# Altium schematic symbol library sun_library2.SchLib: 548 symbols (part 3 of 5)
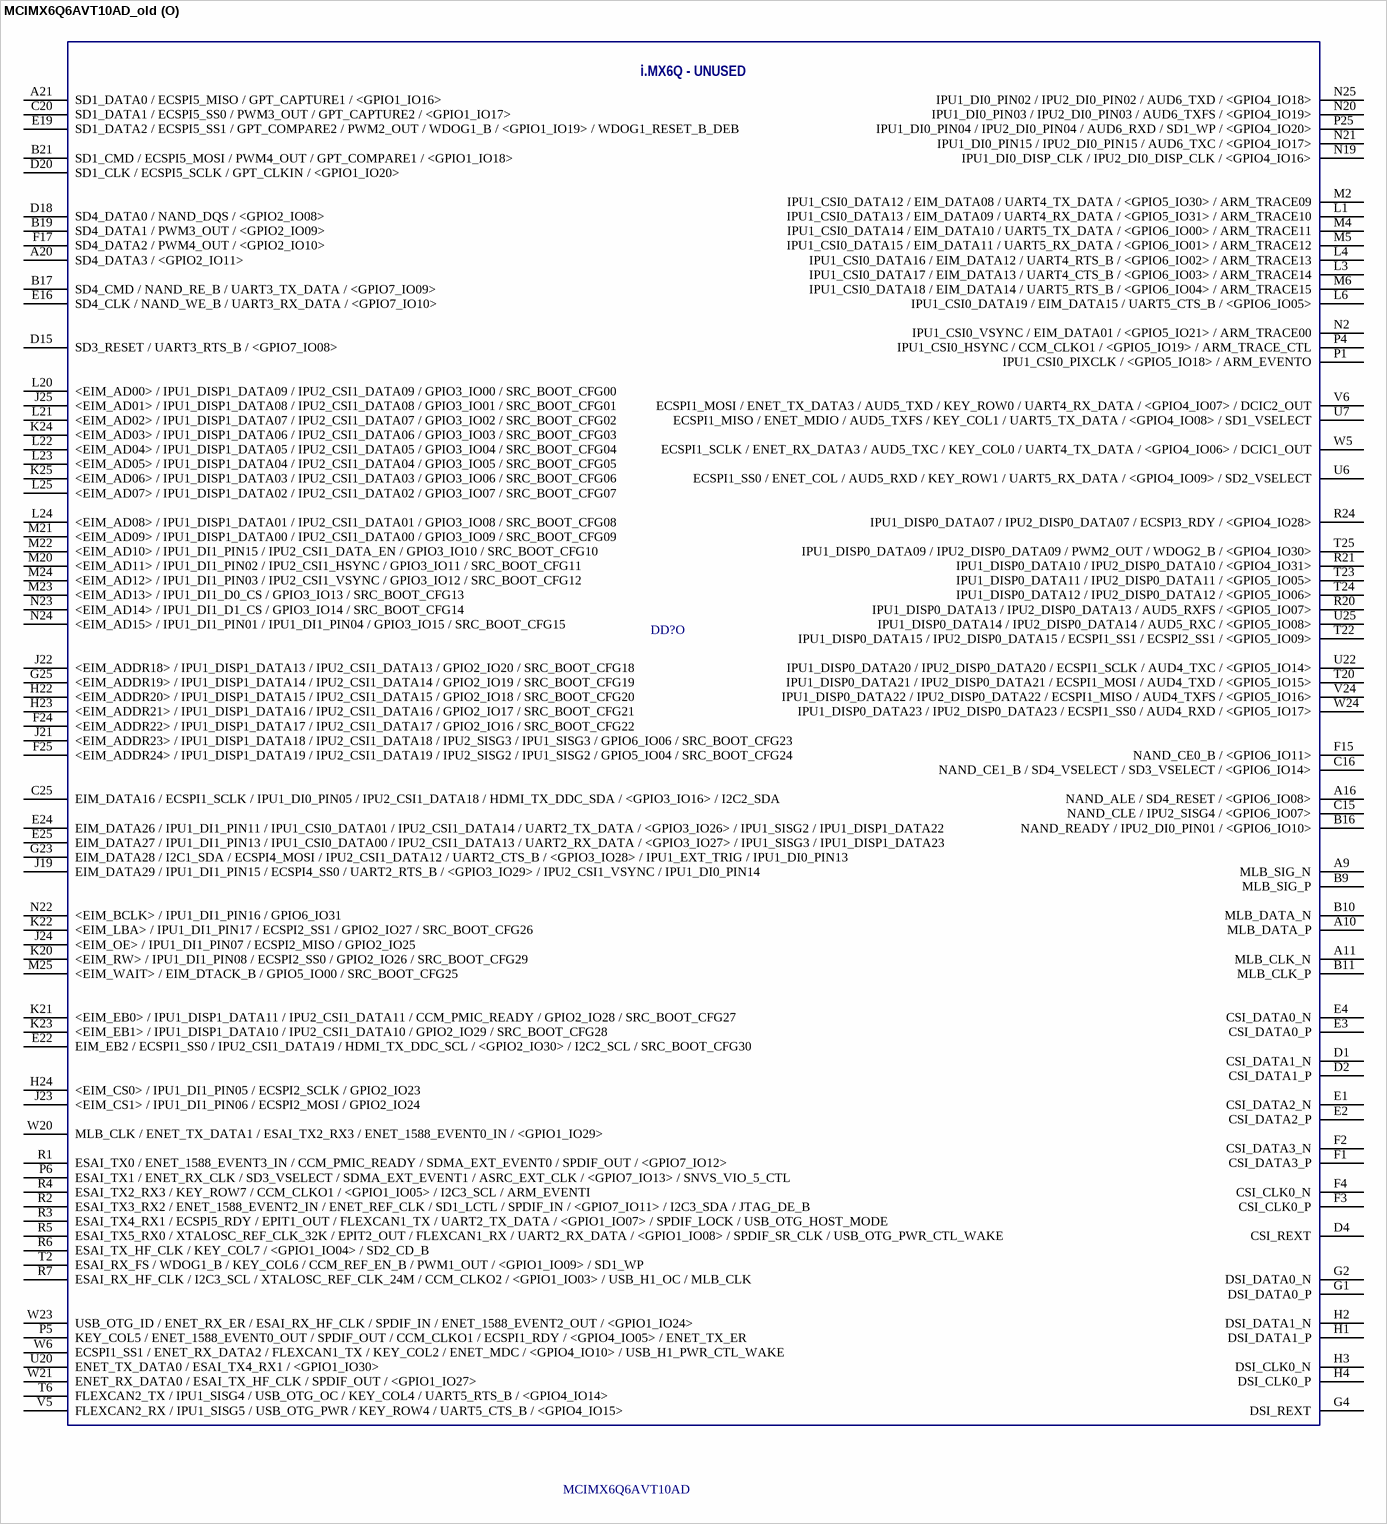
[diagram p47: symbol MCIMX6Q6AVT10AD_old]

## MCIMX6Q6AVT10AD_old
designator DD?, comment MCIMX6Q6AVT10AD
IC MCU 32BIT ARM QUAD 624FCBGA; Value: MCIMX6Q6AVT10AD
part A pins: A7 XTALOSC_XTALI, B7 XTALOSC_XTALO, C2 JTAG_TRSTB, C3 JTAG_TMS, C5 XTALOSC_CLK2_N, C9 XTALOSC_RTC_XTALO, C11 ~{SRC_POR}, C12 SRC_BOOT_MODE0, D5 XTALOSC_CLK2_P, D9 XTALOSC_RTC_XTALI, D11 SNVS_PMIC_ON_REQ, D12 SRC_ONOFF, E11 SNVS_TAMPER, E12 TCU_TEST_MODE, F11 CCM_PMIC_STBY_REQ, F12 SRC_BOOT_MODE1, G5 JTAG_TDI, G6 JTAG_TDO, G24 <EIM_ADDR17> / IPU1_DISP1_DATA12 / IPU2_CSI1_DATA12 / GPIO2_IO21 / SRC_BOOT_CFG17, H5 JTAG_TCK, H6 JTAG_MOD, H19 <EIM_ADDR25> / ECSPI4_SS1 / ECSPI2_RDY / IPU1_DI1_PIN12 / IPU1_DI0_D1_CS / GPIO5_IO02 / HDMI_TX_CEC_LINE, H25 <EIM_ADDR16> / IPU1_DI1_DISP_CLK / IPU2_CSI1_PIXCLK / GPIO2_IO22 / SRC_BOOT_CFG16, R22 IPU1_DISP0_DATA08 / IPU2_DISP0_DATA08 / PWM1_OUT / WDOG1_B / <GPIO4_IO29>, T1 ESAI_TX_FS / KEY_ROW6 / <GPIO1_IO02> / SD2_WP / MLB_DATA, U21 ENET_RX_EN / ESAI_TX_CLK / SPDIF_EXT_CLK / <GPIO1_IO25>
part B pins: A4 GND_3, A5 FA_ANA, A8 GND_4, A13 GND_1, A25 GND_2, AA7 GND_10, AA10 GND_5, AA13 GND_6, AA16 GND_7, AA19 GND_8, AA22 GND_9, AB3 GND_12, AB24 GND_11, AD4 GND_18, AD7 GND_19, AD10 GND_13, AD13 GND_14, AD16 GND_15, AD19 GND_16, AD22 GND_17, AE1 GND_20, AE25 GND_21, B4 GND_22, B5 VDD_FA, C1 GND_23, C4 GND_25, C6 GND_26, C8 GPANAIO, C10 GND_24, D3 GND_27, D6 GND_28, D8 GND_29, E5 GND_30, E6 GND_31, E7 GND_32, E8 NVCC_PLL_OUT, F5 GND_33, F6 GND_34, F7 GND_35, F8 GND_36, G3 GND_39, G9 VDD_SNVS_CAP, G10 GND_37, G11 VDD_SNVS_IN, G14 NVCC_SD3, G15 NVCC_NANDF, G16 NVCC_SD1, G17 NVCC_SD2, G18 NVCC_RGMII, G19 GND_38, H8 GND_43, H9 VDDHIGH_IN_1, H10 VDDHIGH_CAP_1, H11 VDDARM23_CAP_1, H12 GND_40, H13 VDDARM_CAP_1, H14 VDDARM_IN_1, H15 GND_41, H16 VDDSOC_IN_1, H17 VDDPU_CAP_1, H18 GND_42, J2 GND_47, J7 NVCC_JTAG, J8 GND_48, J9 VDDHIGH_IN_2, J10 VDDHIGH_CAP_2, J11 VDDARM23_CAP_2, J12 GND_44, J13 VDDARM_CAP_2, J14 VDDARM_IN_2, J15 GND_45, J16 VDDSOC_IN_2, J17 VDDPU_CAP_2, J18 GND_46, K7 NVCC_MIPI, K8 GND_53, K9 VDDARM23_IN_1, K10 GND_49, K11 VDDARM23_CAP_3, K12 GND_50, K13 VDDARM_CAP_3, K14 VDDARM_IN_3, K15 GND_51, K16 VDDSOC_IN_3, K17 VDDPU_CAP_3, K18 GND_52, K19 NVCC_EIM0, L2 GND_58, L5 GND_59, L8 GND_60, L9 VDDARM23_IN_2, L10 GND_54, L11 VDDARM23_CAP_4, L12 GND_55, L13 VDDARM_CAP_4, L14 VDDARM_IN_4, L15 GND_56, L16 VDDSOC_IN_4, L17 VDDPU_CAP_4, L18 GND_57, L19 NVCC_EIM1, M8 GND_65, M9 VDDARM23_IN_3, M10 GND_61, M11 VDDARM23_CAP_5, M12 GND_62, M13 VDDARM_CAP_5, M14 VDDARM_IN_5, M15 GND_63, M16 VDDSOC_IN_5, M17 VDDPU_CAP_5, M18 GND_64, M19 NVCC_EIM2, N7 NVCC_CSI, N8 GND_69, N9 VDDARM23_IN_4, N10 GND_66, N11 VDDARM23_CAP_6, N12 VDD_CACHE_CAP, N13 VDDARM_CAP_6, N14 VDDARM_IN_6, N15 GND_67, N16 VDDSOC_IN_6, N17 VDDPU_CAP_6, N18 GND_68, P7 NVCC_GPIO, P8 GND_74, P9 VDDARM23_IN_5, P10 GND_70, P11 VDDARM23_CAP_7, P12 GND_71, P13 VDDARM_CAP_7, P14 VDDARM_IN_7, P15 GND_72, P16 VDDSOC_IN_7, P17 VDDPU_CAP_7, P18 GND_73, P19 NVCC_LCD, R8 GND_78, R9 VDDARM23_IN_6, R10 VDDSOC_CAP_1, R11 VDDARM23_CAP_8, R12 GND_75, R13 VDDARM_CAP_8, R14 VDDARM_IN_8, R15 GND_76, R16 VDDSOC_IN_8, R17 GND_77, R19 NVCC_ENET, T8 GND_84, T9 VDDARM23_IN_7, T10 VDDSOC_CAP_2, T11 GND_79, T12 GND_80, T13 VDDSOC_CAP_3, T14 VDDSOC_CAP_4, T15 GND_81, T16 VDDSOC_IN_9, T17 GND_82, T19 GND_83, U8 GND_89, U9 VDDARM23_IN_8, U10 VDDSOC_CAP_5, U11 GND_85, U12 GND_86, U13 VDDSOC_CAP_6, U14 VDDSOC_CAP_7, U15 GND_87, U16 VDDSOC_IN_10, U17 GND_88, U19 GND_90, V8 GND_91, V19 GND_92, W3 GND_93, W7 GND_94, W8 GND_95, W9 GND_96, W10 GND_97, W11 GND_98, W12 GND_99, W13 GND_100, W15 GND_101, W16 GND_102, W17 GND_103, W18 GND_104, W19 GND_105, Y5 GND_106, Y24 GND_107
part C pins: AA5 DRAM_D3, AA6 DRAM_D10, AA8 DRAM_D17, AA9 DRAM_D23, AA11 DRAM_SDCKE1, AA12 DRAM_A14, AA14 DRAM_A2, AA15 DRAM_A10, AA17 DRAM_D32, AA18 DRAM_D33, AA20 DRAM_D45, AA21 DRAM_D57, AA23 DRAM_D61, AA24 ~{DRAM_SDQS7}, AA25 DRAM_SDQS7, AB4 DRAM_D6, AB5 DRAM_D12, AB6 DRAM_D14, AB7 DRAM_D16, AB8 DRAM_DQM2, AB9 DRAM_D18, AB10 ~{DRAM_SDQS3}, AB11 DRAM_D27, AB12 DRAM_SDBA2, AB13 DRAM_A8, AB14 DRAM_A1, AB15 DRAM_RAS, AB16 DRAM_SDWE, AB17 DRAM_SDODT1, AB18 DRAM_DQM4, AB19 DRAM_D38, AB20 DRAM_D41, AB21 DRAM_D42, AB22 DRAM_D52, AB23 DRAM_D60, AB25 DRAM_D56, AC1 DRAM_D4, AC2 DRAM_VREF, AC3 DRAM_DQM0, AC4 DRAM_D2, AC5 DRAM_D13, AC6 DRAM_DQM1, AC7 DRAM_D15, AC8 DRAM_D22, AC9 DRAM_D28, AC10 DRAM_SDQS3, AC11 DRAM_D31, AC12 DRAM_A11, AC13 DRAM_A6, AC14 DRAM_A0, AC15 DRAM_SDBA0, AC16 DRAM_SDODT0, AC17 DRAM_A13, AC18 DRAM_D34, AC19 DRAM_D39, AC20 DRAM_DQM5, AC21 DRAM_D47, AC22 DRAM_D48, AC23 DRAM_D53, AC24 DRAM_D51, AC25 DRAM_D55, AD1 DRAM_D5, AD2 DRAM_D0, AD3 ~{DRAM_SDQS0}, AD5 DRAM_D8, AD6 DRAM_SDQS1, AD8 DRAM_SDQS2, AD9 DRAM_D29, AD11 DRAM_D30, AD12 DRAM_A12, AD14 DRAM_SDCLK_1, AD15 DRAM_SDCLK_0, AD17 DRAM_CS1, AD18 DRAM_SDQS4, AD20 DRAM_SDQS5, AD21 DRAM_D43, AD23 DRAM_SDQS6, AD24 DRAM_DQM6, AD25 DRAM_D54, AE2 DRAM_D1, AE3 DRAM_SDQS0, AE4 DRAM_D7, AE5 DRAM_D9, AE6 ~{DRAM_SDQS1}, AE7 DRAM_D11, AE8 ~{DRAM_SDQS2}, AE9 DRAM_D24, AE10 DRAM_DQM3, AE11 DRAM_D26, AE12 DRAM_A9, AE13 DRAM_A5, AE14 ~{DRAM_SDCLK_1}, AE15 ~{DRAM_SDCLK_0}, AE16 DRAM_CAS, AE17 ZQPAD, AE18 ~{DRAM_SDQS4}, AE19 DRAM_D35, AE20 ~{DRAM_SDQS5}, AE21 DRAM_D46, AE22 DRAM_D49, AE23 ~{DRAM_SDQS6}, AE24 DRAM_D50, R18 NVCC_DRAM_1, T18 NVCC_DRAM_2, U18 NVCC_DRAM_3, V9 NVCC_DRAM_13, V10 NVCC_DRAM_4, V11 NVCC_DRAM_5, V12 NVCC_DRAM_6, V13 NVCC_DRAM_7, V14 NVCC_DRAM_8, V15 NVCC_DRAM_9, V16 NVCC_DRAM_10, V17 NVCC_DRAM_11, V18 NVCC_DRAM_12, W14 DRAM_A4, W25 DRAM_D63, Y6 DRAM_RESET, Y7 DRAM_D20, Y8 DRAM_D21, Y9 DRAM_D19, Y10 DRAM_D25, Y11 DRAM_SDCKE0, Y12 DRAM_A15, Y13 DRAM_A7, Y14 DRAM_A3, Y15 DRAM_SDBA1, Y16 DRAM_CS0, Y17 DRAM_D36, Y18 DRAM_D37, Y19 DRAM_D40, Y20 DRAM_D44, Y21 DRAM_DQM7, Y22 DRAM_D59, Y23 DRAM_D62, Y25 DRAM_D58
part D pins: A12 SATA_PHY_TX_P, A14 SATA_PHY_RX_N, B12 SATA_PHY_TX_N, B14 SATA_PHY_RX_P, C14 SATA_REXT, G12 SATA_VPH, G13 SATA_VP
part E pins: A6 USB_OTG_DP, B6 USB_OTG_DN, B8 ~{USB_OTG_CHD}, D10 USB_H1_VBUS, E9 USB_OTG_VBUS, E10 USB_H1_DP, E23 EIM_DATA22 / ECSPI4_MISO / IPU1_DI0_PIN01 / IPU2_CSI1_DATA10 / USB_OTG_PWR / <GPIO3_IO22> / SPDIF_OUT, F9 VDDUSB_CAP, F10 USB_H1_DN, H20 EIM_DATA21 / ECSPI4_SCLK / IPU1_DI0_PIN17 / IPU2_CSI1_DATA11 / USB_OTG_OC / <GPIO3_IO21> / I2C1_SCL / SPDIF_IN, H21 EIM_DATA31 / IPU1_DISP1_DATA20 / IPU1_DI0_PIN12 / IPU1_CSI0_DATA02 / UART3_RTS_B / <GPIO3_IO31> / USB_H1_PWR, J20 EIM_DATA30 / IPU1_DISP1_DATA21 / IPU1_DI0_PIN11 / IPU1_CSI0_DATA03 / UART3_CTS_B / <GPIO3_IO30> / USB_H1_OC, T4 ESAI_RX_CLK / WDOG2_B / KEY_ROW5 / USB_OTG_ID / PWM2_OUT / <GPIO1_IO01> / SD1_CD_B
part F pins: A17 NAND_CE2_B / IPU1_SISG0 / ESAI_TX0 / EIM_CRE / CCM_CLKO2 / <GPIO6_IO15> / IPU2_SISG0, AA1 LVDS1_DATA1_P, AA2 LVDS1_DATA1_N, AA3 LVDS1_DATA3_N, AA4 LVDS1_DATA3_P, AB1 LVDS1_DATA2_N, AB2 LVDS1_DATA2_P, D24 EIM_DATA18 / ECSPI1_MOSI / IPU1_DI0_PIN07 / IPU2_CSI1_DATA17 / IPU1_DI1_D0_CS / <GPIO3_IO18> / I2C3_SDA, F18 SD1_DATA3 / ECSPI5_SS2 / GPT_COMPARE3 / PWM1_OUT / WDOG2_B / <GPIO1_IO21> / WDOG2_RESET_B_DEB, F21 EIM_DATA17 / ECSPI1_MISO / IPU1_DI0_PIN06 / IPU2_CSI1_PIXCLK / DCIC1_OUT / <GPIO3_IO17> / I2C3_SCL, U1 LVDS0_DATA0_P, U2 LVDS0_DATA0_N, U3 LVDS0_DATA1_P, U4 LVDS0_DATA1_N, V1 LVDS0_DATA2_P, V2 LVDS0_DATA2_N, V3 LVDS0_CLK_P, V4 LVDS0_CLK_N, V7 NVCC_LVDS2P5, W1 LVDS0_DATA3_P, W2 LVDS0_DATA3_N, Y1 LVDS1_DATA0_N, Y2 LVDS1_DATA0_P, Y3 LVDS1_CLK_N, Y4 LVDS1_CLK_P
part G pins: J1 HDMI_REF, J3 HDMI_TX_DATA1_N, J4 HDMI_TX_DATA1_P, J5 HDMI_TX_CLK_N, J6 HDMI_TX_CLK_P, K1 HDMI_TX_HPD, K2 HDMI_TX_DDC_CEC, K3 HDMI_TX_DATA2_N, K4 HDMI_TX_DATA2_P, K5 HDMI_TX_DATA0_N, K6 HDMI_TX_DATA0_P, L7 HDMI_VP, M7 HDMI_VPH, T7 ASRC_EXT_CLK / HDMI_TX_DDC_SDA / KEY_ROW3 / I2C2_SDA / <GPIO4_IO13> / SD1_VSELECT, U5 ECSPI1_SS3 / ENET_CRS / HDMI_TX_DDC_SCL / KEY_COL3 / I2C2_SCL / <GPIO4_IO12> / SPDIF_IN, W4 ECSPI1_SS2 / ENET_TX_DATA2 / FLEXCAN1_RX / KEY_ROW2 / SD2_VSELECT / <GPIO4_IO11> / HDMI_TX_CEC_LINE
part H pins: A24 HSI_RX_WAKE / RGMII_TD3 / <GPIO6_IO23>, B23 HSI_TX_FLAG / RGMII_RD1 / <GPIO6_IO27>, B24 HSI_TX_DATA / RGMII_RD2 / <GPIO6_IO28>, B25 USB_H3_STROBE / RGMII_RXC / <GPIO6_IO30>, C22 HSI_TX_READY / RGMII_TD0 / <GPIO6_IO20>, C23 USB_H2_STROBE / RGMII_TX_CTL / <GPIO6_IO26> / ENET_REF_CLK, C24 HSI_RX_READY / RGMII_RD0 / <GPIO6_IO25>, D21 USB_H2_DATA / RGMII_TXC / SPDIF_EXT_CLK / <GPIO6_IO19> / XTALOSC_REF_CLK_24M, D22 USB_H3_DATA / RGMII_RX_CTL / <GPIO6_IO24>, D23 HSI_TX_WAKE / RGMII_RD3 / <GPIO6_IO29>, E21 HSI_RX_DATA / RGMII_TD2 / <GPIO6_IO22>, F20 HSI_RX_FLAG / RGMII_TD1 / <GPIO6_IO21>, V20 MLB_DATA / ENET_MDC / ESAI_TX5_RX0 / ENET_1588_EVENT1_IN / <GPIO1_IO31>, V21 ENET_TX_EN / ESAI_TX3_RX2 / <GPIO1_IO28>, V22 ENET_TX_CLK / ESAI_RX_FS / <GPIO1_IO23> / SPDIF_SR_CLK, V23 ENET_MDIO / ESAI_RX_CLK / ENET_1588_EVENT1_OUT / <GPIO1_IO22> / SPDIF_LOCK, W22 MLB_SIG / ENET_RX_DATA1 / ESAI_TX_FS / ENET_1588_EVENT3_OUT / <GPIO1_IO26>
part I pins: A2 PCIE_REXT, A3 PCIE_TX_N, B1 PCIE_RX_N, B2 PCIE_RX_P, B3 PCIE_TX_P, C7 XTALOSC_CLK1_N, D7 XTALOSC_CLK1_P, G7 PCIE_VPH, G8 PCIE_VPTX, H7 PCIE_VP, P3 IPU1_CSI0_DATA_EN / EIM_DATA00 / <GPIO5_IO20> / ARM_TRACE_CLK
part J pins: A19 NAND_DATA04 / SD2_DATA4 / <GPIO2_IO04>, A22 SD2_DATA0 / ECSPI5_MISO / AUD4_RXD / KEY_ROW7 / <GPIO1_IO15> / DCIC2_OUT, A23 SD2_DATA2 / ECSPI5_SS1 / EIM_CS3 / AUD4_TXD / KEY_ROW6 / <GPIO1_IO13>, B18 NAND_DATA05 / SD2_DATA5 / <GPIO2_IO05>, B22 SD2_DATA3 / ECSPI5_SS3 / KEY_COL6 / AUD4_TXC / <GPIO1_IO12>, C18 NAND_DATA07 / SD2_DATA7 / <GPIO2_IO07>, C21 SD2_CLK / ECSPI5_SCLK / KEY_COL5 / AUD4_RXFS / <GPIO1_IO10>, D17 NAND_DATA03 / SD1_DATA7 / <GPIO2_IO03>, E17 NAND_DATA06 / SD2_DATA6 / <GPIO2_IO06>, E20 SD2_DATA1 / ECSPI5_SS0 / EIM_CS2 / AUD4_TXFS / KEY_COL7 / <GPIO1_IO14>, F16 NAND_DATA02 / SD1_DATA6 / <GPIO2_IO02>, F19 SD2_CMD / ECSPI5_MOSI / KEY_ROW5 / AUD4_RXC / <GPIO1_IO11>, T3 ESAI_TX_CLK / I2C3_SDA / <GPIO1_IO06> / SD2_LCTL / MLB_SIG
part K pins: A15 SD3_DATA2 / <GPIO7_IO06>, A18 NAND_DATA00 / SD1_DATA4 / <GPIO2_IO00>, B13 SD3_CMD / UART2_CTS_B / FLEXCAN1_TX / <GPIO7_IO02>, B15 SD3_DATA3 / UART3_CTS_B / <GPIO7_IO07>, C13 SD3_DATA5 / UART2_TX_DATA / <GPIO7_IO00>, C17 NAND_DATA01 / SD1_DATA5 / <GPIO2_IO01>, D13 SD3_DATA4 / UART2_RX_DATA / <GPIO7_IO01>, D14 SD3_CLK / UART2_RTS_B / FLEXCAN1_RX / <GPIO7_IO03>, E13 SD3_DATA6 / UART1_RX_DATA / <GPIO6_IO18>, E14 SD3_DATA0 / UART1_CTS_B / FLEXCAN2_TX / <GPIO7_IO04>, F13 SD3_DATA7 / UART1_TX_DATA / <GPIO6_IO17>, F14 SD3_DATA1 / UART1_RTS_B / FLEXCAN2_RX / <GPIO7_IO05>
part L pins: D16 NAND_CE3_B / IPU1_SISG1 / ESAI_TX1 / EIM_ADDR26 / <GPIO6_IO16> / IPU2_SISG1, E15 NAND_WP_B / IPU2_SISG5 / <GPIO6_IO09>, P20 IPU1_DISP0_DATA04 / IPU2_DISP0_DATA04 / ECSPI3_SS1 / <GPIO4_IO25>, P21 IPU1_DISP0_DATA03 / IPU2_DISP0_DATA03 / ECSPI3_SS0 / <GPIO4_IO24>, P22 IPU1_DISP0_DATA01 / IPU2_DISP0_DATA01 / ECSPI3_MOSI / <GPIO4_IO22>, P23 IPU1_DISP0_DATA02 / IPU2_DISP0_DATA02 / ECSPI3_MISO / <GPIO4_IO23>, P24 IPU1_DISP0_DATA00 / IPU2_DISP0_DATA00 / ECSPI3_SCLK / <GPIO4_IO21>, R23 IPU1_DISP0_DATA06 / IPU2_DISP0_DATA06 / ECSPI3_SS3 / AUD6_RXC / <GPIO4_IO27>, R25 IPU1_DISP0_DATA05 / IPU2_DISP0_DATA05 / ECSPI3_SS2 / AUD6_RXFS / <GPIO4_IO26>, T21 IPU1_DISP0_DATA16 / IPU2_DISP0_DATA16 / ECSPI2_MOSI / AUD5_TXC / SDMA_EXT_EVENT0 / <GPIO5_IO10>, U23 IPU1_DISP0_DATA19 / IPU2_DISP0_DATA19 / ECSPI2_SCLK / AUD5_RXD / AUD4_RXC / <GPIO5_IO13> / EIM_CS3, U24 IPU1_DISP0_DATA17 / IPU2_DISP0_DATA17 / ECSPI2_MISO / AUD5_TXD / SDMA_EXT_EVENT1 / <GPIO5_IO11>, V25 IPU1_DISP0_DATA18 / IPU2_DISP0_DATA18 / ECSPI2_SS0 / AUD5_TXFS / AUD4_RXFS / <GPIO5_IO12> / EIM_CS2
part M pins: B20 SD4_DATA6 / UART2_CTS_B / <GPIO2_IO14>, C19 SD4_DATA5 / UART2_RTS_B / <GPIO2_IO13>, D19 SD4_DATA7 / UART2_TX_DATA / <GPIO2_IO15>, D25 EIM_DATA23 / IPU1_DI0_D0_CS / UART3_CTS_B / UART1_DCD_B / IPU2_CSI1_DATA_EN / <GPIO3_IO23> / IPU1_DI1_PIN02 / IPU1_DI1_PIN14, E18 SD4_DATA4 / UART2_RX_DATA / <GPIO2_IO12>, F22 EIM_DATA24 / ECSPI4_SS2 / UART3_TX_DATA / ECSPI1_SS2 / ECSPI2_SS2 / <GPIO3_IO24> / AUD5_RXFS / UART1_DTR_B, F23 EIM_EB3 / ECSPI4_RDY / UART3_RTS_B / UART1_RI_B / IPU2_CSI1_HSYNC / <GPIO2_IO31> / IPU1_DI1_PIN03 / SRC_BOOT_CFG31, G20 EIM_DATA20 / ECSPI4_SS0 / IPU1_DI0_PIN16 / IPU2_CSI1_DATA15 / UART1_RTS_B / <GPIO3_IO20> / EPIT2_OUT, G21 EIM_DATA19 / ECSPI1_SS1 / IPU1_DI0_PIN08 / IPU2_CSI1_DATA16 / UART1_CTS_B / <GPIO3_IO19> / EPIT1_OUT, G22 EIM_DATA25 / ECSPI4_SS3 / UART3_RX_DATA / ECSPI1_SS3 / ECSPI2_SS3 / <GPIO3_IO25> / AUD5_RXC / UART1_DSR_B, M1 IPU1_CSI0_DATA10 / AUD3_RXC / ECSPI2_MISO / UART1_TX_DATA / <GPIO5_IO28> / ARM_TRACE07, M3 IPU1_CSI0_DATA11 / AUD3_RXFS / ECSPI2_SS0 / UART1_RX_DATA / <GPIO5_IO29> / ARM_TRACE08
part N pins: N1 IPU1_CSI0_DATA04 / EIM_DATA02 / ECSPI1_SCLK / KEY_COL5 / AUD3_TXC / <GPIO5_IO22> / ARM_TRACE01, N3 IPU1_CSI0_DATA07 / EIM_DATA05 / ECSPI1_SS0 / KEY_ROW6 / AUD3_RXD / <GPIO5_IO25> / ARM_TRACE04, N4 IPU1_CSI0_DATA06 / EIM_DATA04 / ECSPI1_MISO / KEY_COL6 / AUD3_TXFS / <GPIO5_IO24> / ARM_TRACE03, N5 IPU1_CSI0_DATA09 / EIM_DATA07 / ECSPI2_MOSI / KEY_ROW7 / I2C1_SCL / <GPIO5_IO27> / ARM_TRACE06, N6 IPU1_CSI0_DATA08 / EIM_DATA06 / ECSPI2_SCLK / KEY_COL7 / I2C1_SDA / <GPIO5_IO26> / ARM_TRACE05, P2 IPU1_CSI0_DATA05 / EIM_DATA03 / ECSPI1_MOSI / KEY_ROW5 / AUD3_TXD / <GPIO5_IO23> / ARM_TRACE02, T5 CCM_CLKO1 / KEY_COL5 / ASRC_EXT_CLK / EPIT1_OUT / <GPIO1_IO00> / USB_H1_PWR / SNVS_VIO_5
part O pins: A9 MLB_SIG_N, A10 MLB_DATA_P, A11 MLB_CLK_N, A16 NAND_ALE / SD4_RESET / <GPIO6_IO08>, A20 SD4_DATA3 / <GPIO2_IO11>, A21 SD1_DATA0 / ECSPI5_MISO / GPT_CAPTURE1 / <GPIO1_IO16>, B9 MLB_SIG_P, B10 MLB_DATA_N, B11 MLB_CLK_P, B16 NAND_READY / IPU2_DI0_PIN01 / <GPIO6_IO10>, B17 SD4_CMD / NAND_RE_B / UART3_TX_DATA / <GPIO7_IO09>, B19 SD4_DATA1 / PWM3_OUT / <GPIO2_IO09>, B21 SD1_CMD / ECSPI5_MOSI / PWM4_OUT / GPT_COMPARE1 / <GPIO1_IO18>, C15 NAND_CLE / IPU2_SISG4 / <GPIO6_IO07>, C16 NAND_CE1_B / SD4_VSELECT / SD3_VSELECT / <GPIO6_IO14>, C20 SD1_DATA1 / ECSPI5_SS0 / PWM3_OUT / GPT_CAPTURE2 / <GPIO1_IO17>, C25 EIM_DATA16 / ECSPI1_SCLK / IPU1_DI0_PIN05 / IPU2_CSI1_DATA18 / HDMI_TX_DDC_SDA / <GPIO3_IO16> / I2C2_SDA, D1 CSI_DATA1_N, D2 CSI_DATA1_P, D4 CSI_REXT, D15 SD3_RESET / UART3_RTS_B / <GPIO7_IO08>, D18 SD4_DATA0 / NAND_DQS / <GPIO2_IO08>, D20 SD1_CLK / ECSPI5_SCLK / GPT_CLKIN / <GPIO1_IO20>, E1 CSI_DATA2_N, E2 CSI_DATA2_P, E3 CSI_DATA0_P, E4 CSI_DATA0_N, E16 SD4_CLK / NAND_WE_B / UART3_RX_DATA / <GPIO7_IO10>, E19 SD1_DATA2 / ECSPI5_SS1 / GPT_COMPARE2 / PWM2_OUT / WDOG1_B / <GPIO1_IO19> / WDOG1_RESET_B_DEB, E22 EIM_EB2 / ECSPI1_SS0 / IPU2_CSI1_DATA19 / HDMI_TX_DDC_SCL / <GPIO2_IO30> / I2C2_SCL / SRC_BOOT_CFG30, E24 EIM_DATA26 / IPU1_DI1_PIN11 / IPU1_CSI0_DATA01 / IPU2_CSI1_DATA14 / UART2_TX_DATA / <GPIO3_IO26> / IPU1_SISG2 / IPU1_DISP1_DATA22, E25 EIM_DATA27 / IPU1_DI1_PIN13 / IPU1_CSI0_DATA00 / IPU2_CSI1_DATA13 / UART2_RX_DATA / <GPIO3_IO27> / IPU1_SISG3 / IPU1_DISP1_DATA23, F1 CSI_DATA3_P, F2 CSI_DATA3_N, F3 CSI_CLK0_P, F4 CSI_CLK0_N, F15 NAND_CE0_B / <GPIO6_IO11>, F17 SD4_DATA2 / PWM4_OUT / <GPIO2_IO10>, F24 <EIM_ADDR22> / IPU1_DISP1_DATA17 / IPU2_CSI1_DATA17 / GPIO2_IO16 / SRC_BOOT_CFG22, F25 <EIM_ADDR24> / IPU1_DISP1_DATA19 / IPU2_CSI1_DATA19 / IPU2_SISG2 / IPU1_SISG2 / GPIO5_IO04 / SRC_BOOT_CFG24, G1 DSI_DATA0_P, G2 DSI_DATA0_N, G4 DSI_REXT, G23 EIM_DATA28 / I2C1_SDA / ECSPI4_MOSI / IPU2_CSI1_DATA12 / UART2_CTS_B / <GPIO3_IO28> / IPU1_EXT_TRIG / IPU1_DI0_PIN13, G25 <EIM_ADDR19> / IPU1_DISP1_DATA14 / IPU2_CSI1_DATA14 / GPIO2_IO19 / SRC_BOOT_CFG19, H1 DSI_DATA1_P, H2 DSI_DATA1_N, H3 DSI_CLK0_N, H4 DSI_CLK0_P, H22 <EIM_ADDR20> / IPU1_DISP1_DATA15 / IPU2_CSI1_DATA15 / GPIO2_IO18 / SRC_BOOT_CFG20, H23 <EIM_ADDR21> / IPU1_DISP1_DATA16 / IPU2_CSI1_DATA16 / GPIO2_IO17 / SRC_BOOT_CFG21, H24 <EIM_CS0> / IPU1_DI1_PIN05 / ECSPI2_SCLK / GPIO2_IO23, J19 EIM_DATA29 / IPU1_DI1_PIN15 / ECSPI4_SS0 / UART2_RTS_B / <GPIO3_IO29> / IPU2_CSI1_VSYNC / IPU1_DI0_PIN14, J21 <EIM_ADDR23> / IPU1_DISP1_DATA18 / IPU2_CSI1_DATA18 / IPU2_SISG3 / IPU1_SISG3 / GPIO6_IO06 / SRC_BOOT_CFG23, J22 <EIM_ADDR18> / IPU1_DISP1_DATA13 / IPU2_CSI1_DATA13 / GPIO2_IO20 / SRC_BOOT_CFG18, J23 <EIM_CS1> / IPU1_DI1_PIN06 / ECSPI2_MOSI / GPIO2_IO24, J24 <EIM_OE> / IPU1_DI1_PIN07 / ECSPI2_MISO / GPIO2_IO25, J25 <EIM_AD01> / IPU1_DISP1_DATA08 / IPU2_CSI1_DATA08 / GPIO3_IO01 / SRC_BOOT_CFG01, K20 <EIM_RW> / IPU1_DI1_PIN08 / ECSPI2_SS0 / GPIO2_IO26 / SRC_BOOT_CFG29, K21 <EIM_EB0> / IPU1_DISP1_DATA11 / IPU2_CSI1_DATA11 / CCM_PMIC_READY / GPIO2_IO28 / SRC_BOOT_CFG27, K22 <EIM_LBA> / IPU1_DI1_PIN17 / ECSPI2_SS1 / GPIO2_IO27 / SRC_BOOT_CFG26, K23 <EIM_EB1> / IPU1_DISP1_DATA10 / IPU2_CSI1_DATA10 / GPIO2_IO29 / SRC_BOOT_CFG28, K24 <EIM_AD03> / IPU1_DISP1_DATA06 / IPU2_CSI1_DATA06 / GPIO3_IO03 / SRC_BOOT_CFG03, K25 <EIM_AD06> / IPU1_DISP1_DATA03 / IPU2_CSI1_DATA03 / GPIO3_IO06 / SRC_BOOT_CFG06, L1 IPU1_CSI0_DATA13 / EIM_DATA09 / UART4_RX_DATA / <GPIO5_IO31> / ARM_TRACE10, L3 IPU1_CSI0_DATA17 / EIM_DATA13 / UART4_CTS_B / <GPIO6_IO03> / ARM_TRACE14, L4 IPU1_CSI0_DATA16 / EIM_DATA12 / UART4_RTS_B / <GPIO6_IO02> / ARM_TRACE13, L6 IPU1_CSI0_DATA19 / EIM_DATA15 / UART5_CTS_B / <GPIO6_IO05>, L20 <EIM_AD00> / IPU1_DISP1_DATA09 / IPU2_CSI1_DATA09 / GPIO3_IO00 / SRC_BOOT_CFG00, L21 <EIM_AD02> / IPU1_DISP1_DATA07 / IPU2_CSI1_DATA07 / GPIO3_IO02 / SRC_BOOT_CFG02, L22 <EIM_AD04> / IPU1_DISP1_DATA05 / IPU2_CSI1_DATA05 / GPIO3_IO04 / SRC_BOOT_CFG04, L23 <EIM_AD05> / IPU1_DISP1_DATA04 / IPU2_CSI1_DATA04 / GPIO3_IO05 / SRC_BOOT_CFG05, L24 <EIM_AD08> / IPU1_DISP1_DATA01 / IPU2_CSI1_DATA01 / GPIO3_IO08 / SRC_BOOT_CFG08, L25 <EIM_AD07> / IPU1_DISP1_DATA02 / IPU2_CSI1_DATA02 / GPIO3_IO07 / SRC_BOOT_CFG07, M2 IPU1_CSI0_DATA12 / EIM_DATA08 / UART4_TX_DATA / <GPIO5_IO30> / ARM_TRACE09, M4 IPU1_CSI0_DATA14 / EIM_DATA10 / UART5_TX_DATA / <GPIO6_IO00> / ARM_TRACE11, M5 IPU1_CSI0_DATA15 / EIM_DATA11 / UART5_RX_DATA / <GPIO6_IO01> / ARM_TRACE12, M6 IPU1_CSI0_DATA18 / EIM_DATA14 / UART5_RTS_B / <GPIO6_IO04> / ARM_TRACE15, M20 <EIM_AD11> / IPU1_DI1_PIN02 / IPU2_CSI1_HSYNC / GPIO3_IO11 / SRC_BOOT_CFG11, M21 <EIM_AD09> / IPU1_DISP1_DATA00 / IPU2_CSI1_DATA00 / GPIO3_IO09 / SRC_BOOT_CFG09, M22 <EIM_AD10> / IPU1_DI1_PIN15 / IPU2_CSI1_DATA_EN / GPIO3_IO10 / SRC_BOOT_CFG10, M23 <EIM_AD13> / IPU1_DI1_D0_CS / GPIO3_IO13 / SRC_BOOT_CFG13, M24 <EIM_AD12> / IPU1_DI1_PIN03 / IPU2_CSI1_VSYNC / GPIO3_IO12 / SRC_BOOT_CFG12, M25 <EIM_WAIT> / EIM_DTACK_B / GPIO5_IO00 / SRC_BOOT_CFG25, N2 IPU1_CSI0_VSYNC / EIM_DATA01 / <GPIO5_IO21> / ARM_TRACE00, N19 IPU1_DI0_DISP_CLK / IPU2_DI0_DISP_CLK / <GPIO4_IO16>, N20 IPU1_DI0_PIN03 / IPU2_DI0_PIN03 / AUD6_TXFS / <GPIO4_IO19>, N21 IPU1_DI0_PIN15 / IPU2_DI0_PIN15 / AUD6_TXC / <GPIO4_IO17>, N22 <EIM_BCLK> / IPU1_DI1_PIN16 / GPIO6_IO31, N23 <EIM_AD14> / IPU1_DI1_D1_CS / GPIO3_IO14 / SRC_BOOT_CFG14, N24 <EIM_AD15> / IPU1_DI1_PIN01 / IPU1_DI1_PIN04 / GPIO3_IO15 / SRC_BOOT_CFG15, N25 IPU1_DI0_PIN02 / IPU2_DI0_PIN02 / AUD6_TXD / <GPIO4_IO18>, P1 IPU1_CSI0_PIXCLK / <GPIO5_IO18> / ARM_EVENTO, P4 IPU1_CSI0_HSYNC / CCM_CLKO1 / <GPIO5_IO19> / ARM_TRACE_CTL, P5 KEY_COL5 / ENET_1588_EVENT0_OUT / SPDIF_OUT / CCM_CLKO1 / ECSPI1_RDY / <GPIO4_IO05> / ENET_TX_ER, P6 ESAI_TX1 / ENET_RX_CLK / SD3_VSELECT / SDMA_EXT_EVENT1 / ASRC_EXT_CLK / <GPIO7_IO13> / SNVS_VIO_5_CTL, P25 IPU1_DI0_PIN04 / IPU2_DI0_PIN04 / AUD6_RXD / SD1_WP / <GPIO4_IO20>, R1 ESAI_TX0 / ENET_1588_EVENT3_IN / CCM_PMIC_READY / SDMA_EXT_EVENT0 / SPDIF_OUT / <GPIO7_IO12>, R2 ESAI_TX3_RX2 / ENET_1588_EVENT2_IN / ENET_REF_CLK / SD1_LCTL / SPDIF_IN / <GPIO7_IO11> / I2C3_SDA / JTAG_DE_B, R3 ESAI_TX4_RX1 / ECSPI5_RDY / EPIT1_OUT / FLEXCAN1_TX / UART2_TX_DATA / <GPIO1_IO07> / SPDIF_LOCK / USB_OTG_HOST_MODE, R4 ESAI_TX2_RX3 / KEY_ROW7 / CCM_CLKO1 / <GPIO1_IO05> / I2C3_SCL / ARM_EVENTI, R5 ESAI_TX5_RX0 / XTALOSC_REF_CLK_32K / EPIT2_OUT / FLEXCAN1_RX / UART2_RX_DATA / <GPIO1_IO08> / SPDIF_SR_CLK / USB_OTG_PWR_CTL_WAKE, R6 ESAI_TX_HF_CLK / KEY_COL7 / <GPIO1_IO04> / SD2_CD_B, R7 ESAI_RX_HF_CLK / I2C3_SCL / XTALOSC_REF_CLK_24M / CCM_CLKO2 / <GPIO1_IO03> / USB_H1_OC / MLB_CLK, R20 IPU1_DISP0_DATA13 / IPU2_DISP0_DATA13 / AUD5_RXFS / <GPIO5_IO07>, R21 IPU1_DISP0_DATA10 / IPU2_DISP0_DATA10 / <GPIO4_IO31>, R24 IPU1_DISP0_DATA07 / IPU2_DISP0_DATA07 / ECSPI3_RDY / <GPIO4_IO28>, T2 ESAI_RX_FS / WDOG1_B / KEY_COL6 / CCM_REF_EN_B / PWM1_OUT / <GPIO1_IO09> / SD1_WP, T6 FLEXCAN2_TX / IPU1_SISG4 / USB_OTG_OC / KEY_COL4 / UART5_RTS_B / <GPIO4_IO14>, T20 IPU1_DISP0_DATA21 / IPU2_DISP0_DATA21 / ECSPI1_MOSI / AUD4_TXD / <GPIO5_IO15>, T22 IPU1_DISP0_DATA15 / IPU2_DISP0_DATA15 / ECSPI1_SS1 / ECSPI2_SS1 / <GPIO5_IO09>, T23 IPU1_DISP0_DATA11 / IPU2_DISP0_DATA11 / <GPIO5_IO05>, T24 IPU1_DISP0_DATA12 / IPU2_DISP0_DATA12 / <GPIO5_IO06>, T25 IPU1_DISP0_DATA09 / IPU2_DISP0_DATA09 / PWM2_OUT / WDOG2_B / <GPIO4_IO30>, U6 ECSPI1_SS0 / ENET_COL / AUD5_RXD / KEY_ROW1 / UART5_RX_DATA / <GPIO4_IO09> / SD2_VSELECT, U7 ECSPI1_MISO / ENET_MDIO / AUD5_TXFS / KEY_COL1 / UART5_TX_DATA / <GPIO4_IO08> / SD1_VSELECT, U20 ENET_TX_DATA0 / ESAI_TX4_RX1 / <GPIO1_IO30>, U22 IPU1_DISP0_DATA20 / IPU2_DISP0_DATA20 / ECSPI1_SCLK / AUD4_TXC / <GPIO5_IO14>, U25 IPU1_DISP0_DATA14 / IPU2_DISP0_DATA14 / AUD5_RXC / <GPIO5_IO08>, V5 FLEXCAN2_RX / IPU1_SISG5 / USB_OTG_PWR / KEY_ROW4 / UART5_CTS_B / <GPIO4_IO15>, V6 ECSPI1_MOSI / ENET_TX_DATA3 / AUD5_TXD / KEY_ROW0 / UART4_RX_DATA / <GPIO4_IO07> / DCIC2_OUT, V24 IPU1_DISP0_DATA22 / IPU2_DISP0_DATA22 / ECSPI1_MISO / AUD4_TXFS / <GPIO5_IO16>, W5 ECSPI1_SCLK / ENET_RX_DATA3 / AUD5_TXC / KEY_COL0 / UART4_TX_DATA / <GPIO4_IO06> / DCIC1_OUT, W6 ECSPI1_SS1 / ENET_RX_DATA2 / FLEXCAN1_TX / KEY_COL2 / ENET_MDC / <GPIO4_IO10> / USB_H1_PWR_CTL_WAKE, W20 MLB_CLK / ENET_TX_DATA1 / ESAI_TX2_RX3 / ENET_1588_EVENT0_IN / <GPIO1_IO29>, W21 ENET_RX_DATA0 / ESAI_TX_HF_CLK / SPDIF_OUT / <GPIO1_IO27>, W23 USB_OTG_ID / ENET_RX_ER / ESAI_RX_HF_CLK / SPDIF_IN / ENET_1588_EVENT2_OUT / <GPIO1_IO24>, W24 IPU1_DISP0_DATA23 / IPU2_DISP0_DATA23 / ECSPI1_SS0 / AUD4_RXD / <GPIO5_IO17>
part A text: i.MX6Q - CONTROL
part B text: i.MX6Q - POWER
part C text: i.MX6Q - DDR
part D text: i.MX6Q - SATA
part E text: i.MX6Q - USB
part F text: i.MX6Q - LVDS
part G text: i.MX6Q - HDMI
part H text: i.MX6Q - RGMII
part I text: i.MX6Q - PCIe
part J text: i.MX6Q - SD2
part K text: i.MX6Q - SD3
part L text: i.MX6Q - SPI, I2C; SPINOR; ECSPI2; I2C4
part M text: i.MX6Q - UART; NVCC_UART1; NVCC_UART2
part N text: i.MX6Q - AUDIO
part O text: i.MX6Q - UNUSED

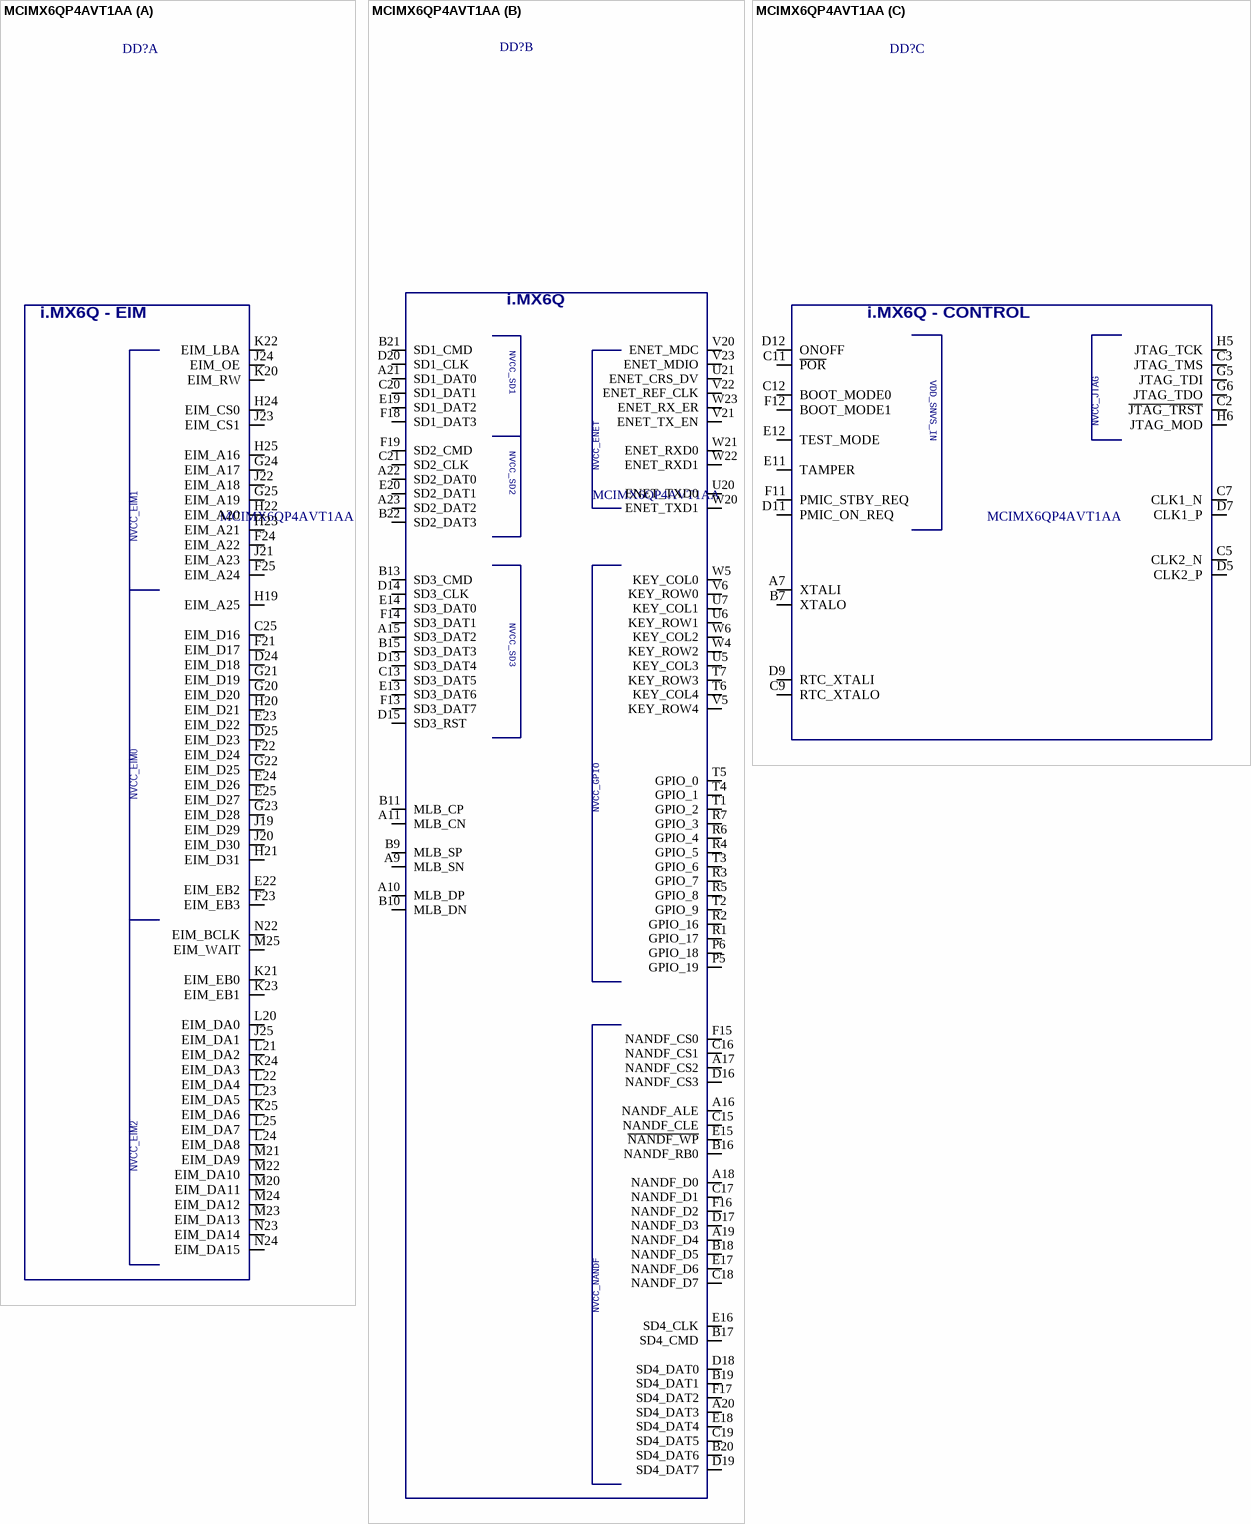
[diagram p30: symbol MCIMX6QP4AVT1AA]

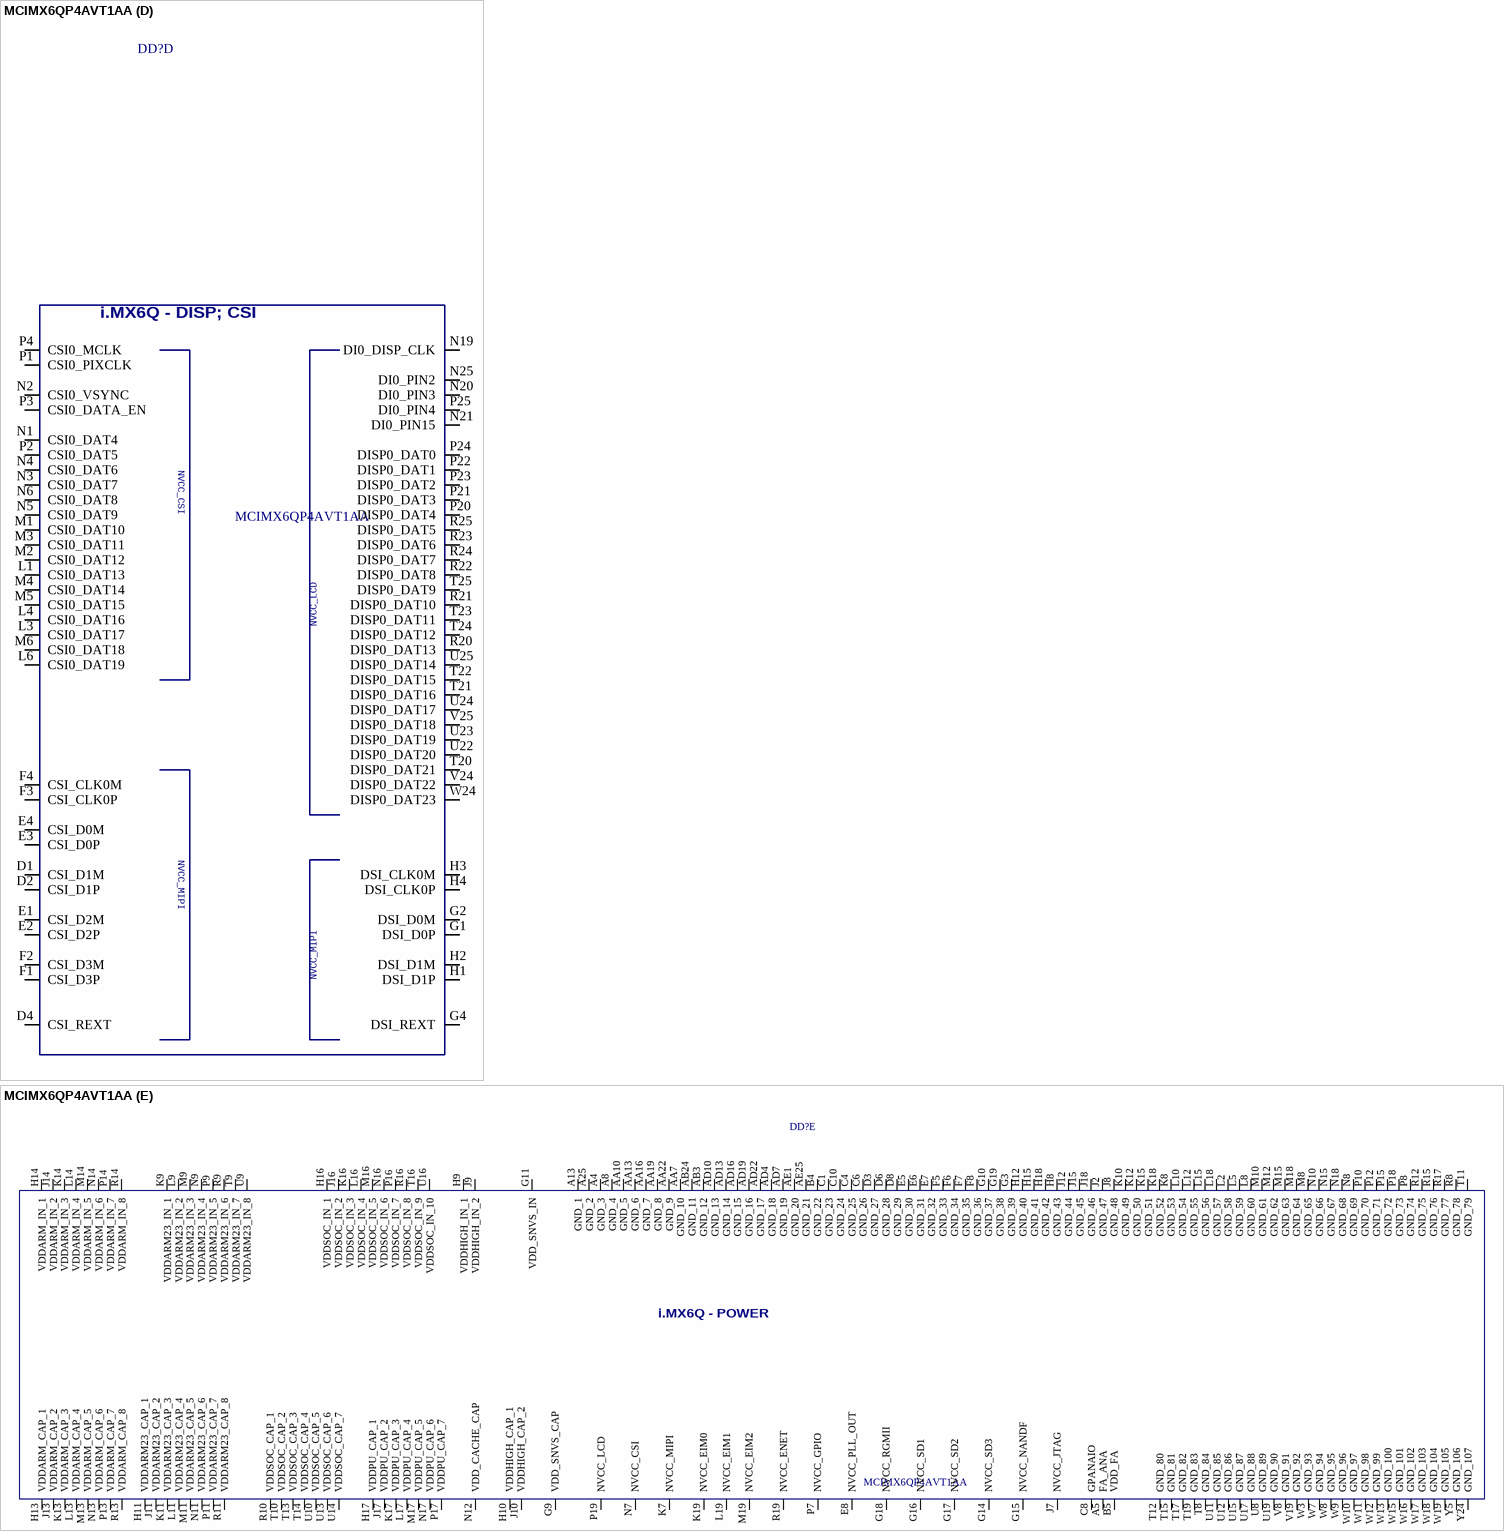
[diagram p31: symbol MCIMX6QP4AVT1AA]

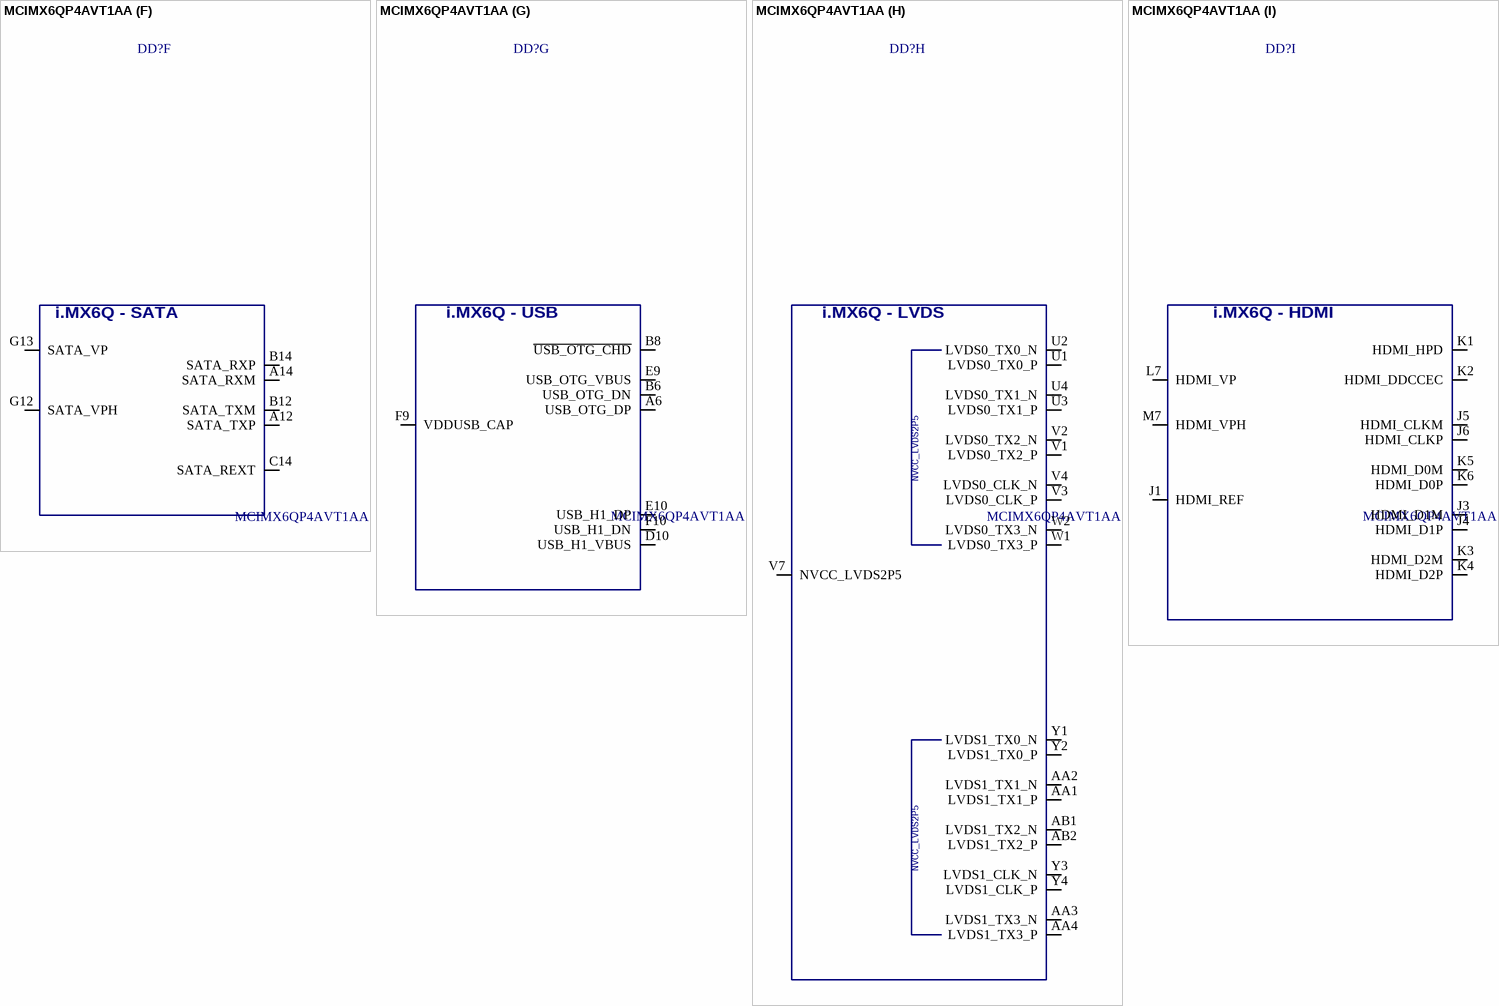
[diagram p32: symbol MCIMX6QP4AVT1AA]

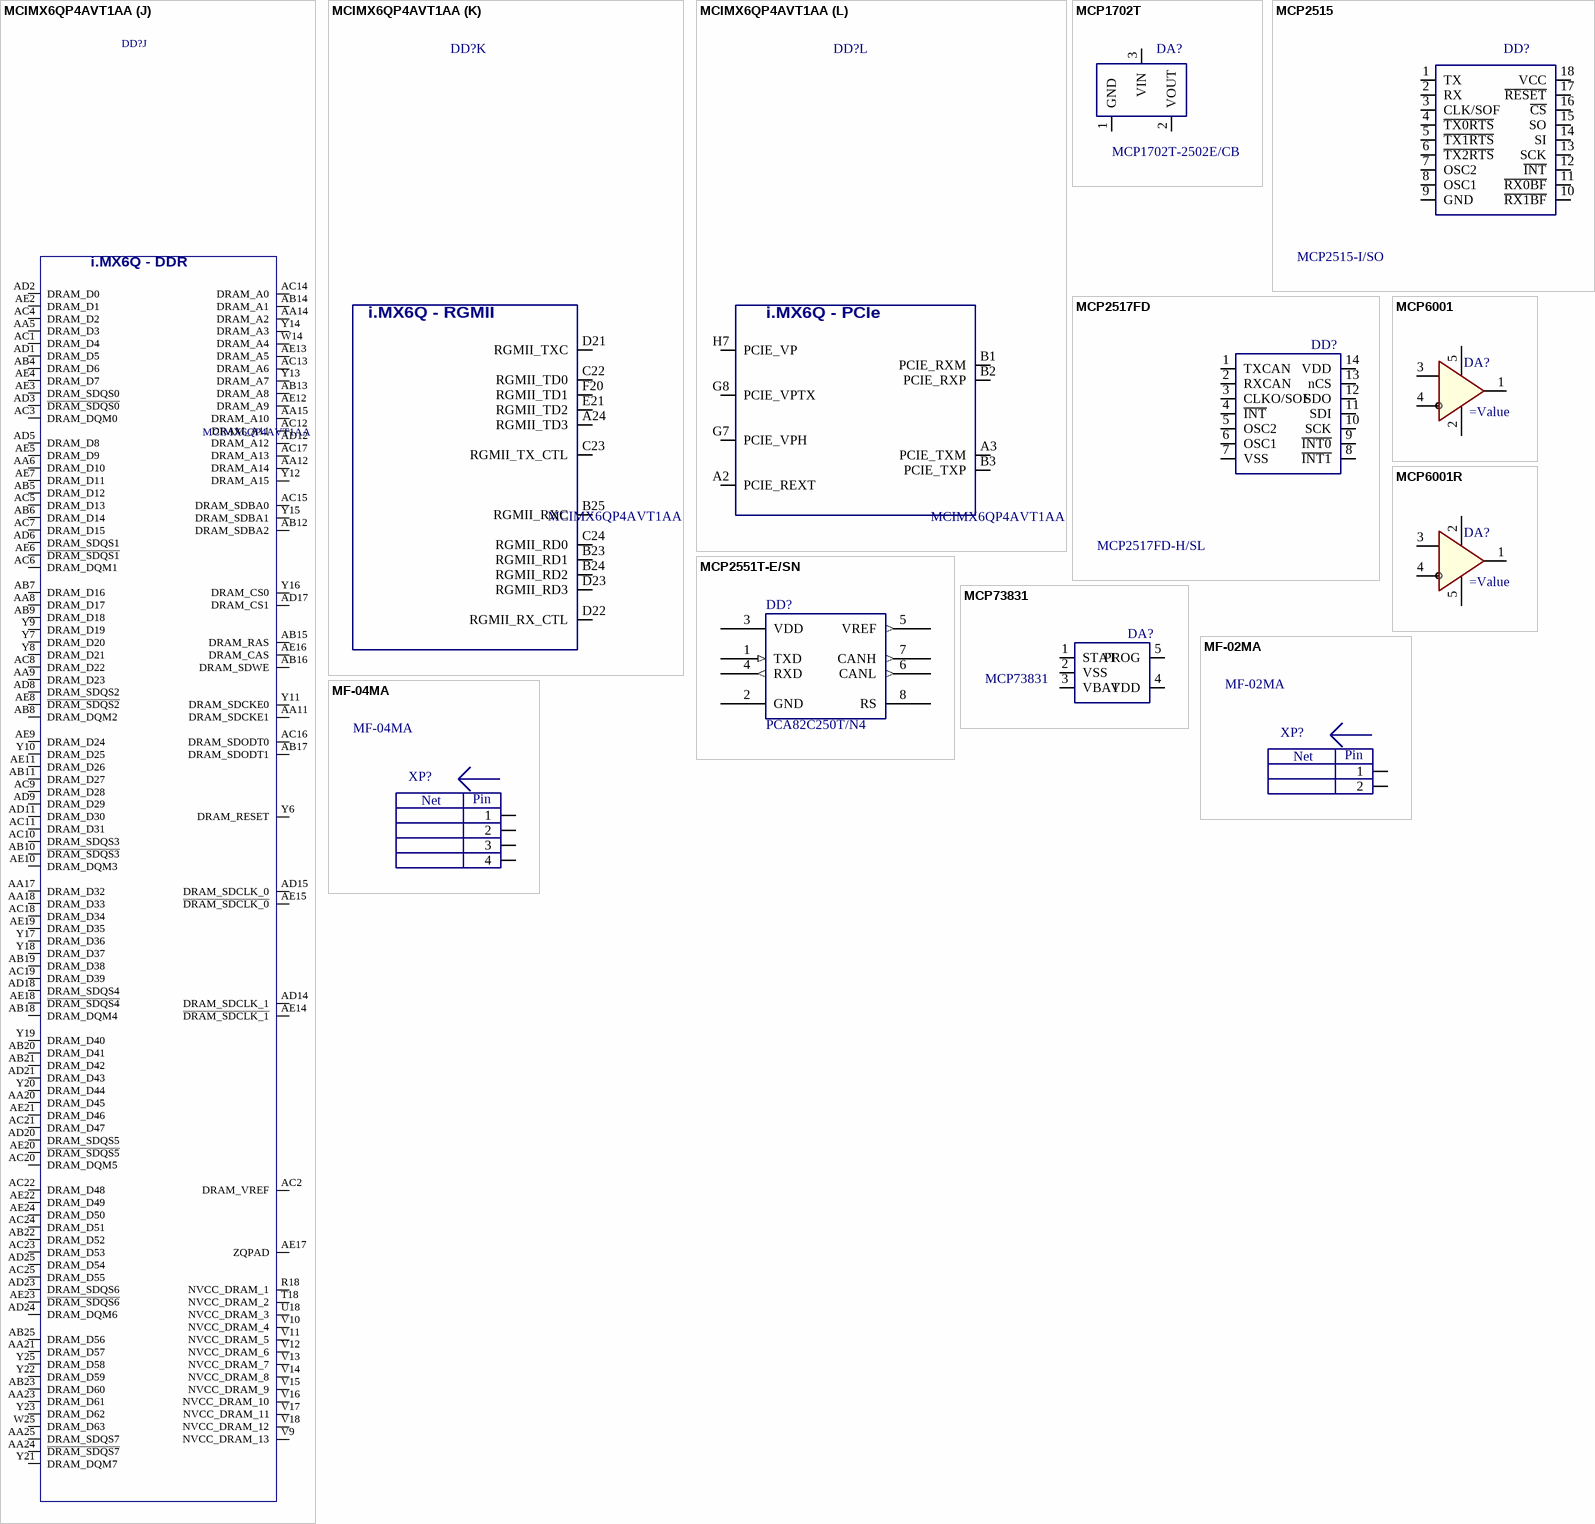
[diagram p33: symbols MCIMX6QP4AVT1AA to MF-04MA]

## MCIMX6QP4AVT1AA
designator DD?
Value: MCIMX6QP4AVT1AA
part A pins: C25 EIM_D16, D24 EIM_D18, D25 EIM_D23, E22 EIM_EB2, E23 EIM_D22, E24 EIM_D26, E25 EIM_D27, F21 EIM_D17, F22 EIM_D24, F23 EIM_EB3, F24 EIM_A22, F25 EIM_A24, G20 EIM_D20, G21 EIM_D19, G22 EIM_D25, G23 EIM_D28, G24 EIM_A17, G25 EIM_A19, H19 EIM_A25, H20 EIM_D21, H21 EIM_D31, H22 EIM_A20, H23 EIM_A21, H24 EIM_CS0, H25 EIM_A16, J19 EIM_D29, J20 EIM_D30, J21 EIM_A23, J22 EIM_A18, J23 EIM_CS1, J24 EIM_OE, J25 EIM_DA1, K20 EIM_RW, K21 EIM_EB0, K22 EIM_LBA, K23 EIM_EB1, K24 EIM_DA3, K25 EIM_DA6, L20 EIM_DA0, L21 EIM_DA2, L22 EIM_DA4, L23 EIM_DA5, L24 EIM_DA8, L25 EIM_DA7, M20 EIM_DA11, M21 EIM_DA9, M22 EIM_DA10, M23 EIM_DA13, M24 EIM_DA12, M25 EIM_WAIT, N22 EIM_BCLK, N23 EIM_DA14, N24 EIM_DA15
part B pins: A9 MLB_SN, A10 MLB_DP, A11 MLB_CN, A15 SD3_DAT2, A16 NANDF_ALE, A17 NANDF_CS2, A18 NANDF_D0, A19 NANDF_D4, A20 SD4_DAT3, A21 SD1_DAT0, A22 SD2_DAT0, A23 SD2_DAT2, B9 MLB_SP, B10 MLB_DN, B11 MLB_CP, B13 SD3_CMD, B15 SD3_DAT3, B16 NANDF_RB0, B17 SD4_CMD, B18 NANDF_D5, B19 SD4_DAT1, B20 SD4_DAT6, B21 SD1_CMD, B22 SD2_DAT3, C13 SD3_DAT5, C15 NANDF_CLE, C16 NANDF_CS1, C17 NANDF_D1, C18 NANDF_D7, C19 SD4_DAT5, C20 SD1_DAT1, C21 SD2_CLK, D13 SD3_DAT4, D14 SD3_CLK, D15 SD3_RST, D16 NANDF_CS3, D17 NANDF_D3, D18 SD4_DAT0, D19 SD4_DAT7, D20 SD1_CLK, E13 SD3_DAT6, E14 SD3_DAT0, E15 ~{NANDF_WP}, E16 SD4_CLK, E17 NANDF_D6, E18 SD4_DAT4, E19 SD1_DAT2, E20 SD2_DAT1, F13 SD3_DAT7, F14 SD3_DAT1, F15 NANDF_CS0, F16 NANDF_D2, F17 SD4_DAT2, F18 SD1_DAT3, F19 SD2_CMD, P5 GPIO_19, P6 GPIO_18, R1 GPIO_17, R2 GPIO_16, R3 GPIO_7, R4 GPIO_5, R5 GPIO_8, R6 GPIO_4, R7 GPIO_3, T1 GPIO_2, T2 GPIO_9, T3 GPIO_6, T4 GPIO_1, T5 GPIO_0, T6 KEY_COL4, T7 KEY_ROW3, U5 KEY_COL3, U6 KEY_ROW1, U7 KEY_COL1, U20 ENET_TXD0, U21 ENET_CRS_DV, V5 KEY_ROW4, V6 KEY_ROW0, V20 ENET_MDC, V21 ENET_TX_EN, V22 ENET_REF_CLK, V23 ENET_MDIO, W4 KEY_ROW2, W5 KEY_COL0, W6 KEY_COL2, W20 ENET_TXD1, W21 ENET_RXD0, W22 ENET_RXD1, W23 ENET_RX_ER
part C pins: A7 XTALI, B7 XTALO, C2 ~{JTAG_TRST}, C3 JTAG_TMS, C5 CLK2_N, C7 CLK1_N, C9 RTC_XTALO, C11 ~{POR}, C12 BOOT_MODE0, D5 CLK2_P, D7 CLK1_P, D9 RTC_XTALI, D11 PMIC_ON_REQ, D12 ONOFF, E11 TAMPER, E12 TEST_MODE, F11 PMIC_STBY_REQ, F12 BOOT_MODE1, G5 JTAG_TDI, G6 JTAG_TDO, H5 JTAG_TCK, H6 JTAG_MOD
part D pins: D1 CSI_D1M, D2 CSI_D1P, D4 CSI_REXT, E1 CSI_D2M, E2 CSI_D2P, E3 CSI_D0P, E4 CSI_D0M, F1 CSI_D3P, F2 CSI_D3M, F3 CSI_CLK0P, F4 CSI_CLK0M, G1 DSI_D0P, G2 DSI_D0M, G4 DSI_REXT, H1 DSI_D1P, H2 DSI_D1M, H3 DSI_CLK0M, H4 DSI_CLK0P, L1 CSI0_DAT13, L3 CSI0_DAT17, L4 CSI0_DAT16, L6 CSI0_DAT19, M1 CSI0_DAT10, M2 CSI0_DAT12, M3 CSI0_DAT11, M4 CSI0_DAT14, M5 CSI0_DAT15, M6 CSI0_DAT18, N1 CSI0_DAT4, N2 CSI0_VSYNC, N3 CSI0_DAT7, N4 CSI0_DAT6, N5 CSI0_DAT9, N6 CSI0_DAT8, N19 DI0_DISP_CLK, N20 DI0_PIN3, N21 DI0_PIN15, N25 DI0_PIN2, P1 CSI0_PIXCLK, P2 CSI0_DAT5, P3 CSI0_DATA_EN, P4 CSI0_MCLK, P20 DISP0_DAT4, P21 DISP0_DAT3, P22 DISP0_DAT1, P23 DISP0_DAT2, P24 DISP0_DAT0, P25 DI0_PIN4, R20 DISP0_DAT13, R21 DISP0_DAT10, R22 DISP0_DAT8, R23 DISP0_DAT6, R24 DISP0_DAT7, R25 DISP0_DAT5, T20 DISP0_DAT21, T21 DISP0_DAT16, T22 DISP0_DAT15, T23 DISP0_DAT11, T24 DISP0_DAT12, T25 DISP0_DAT9, U22 DISP0_DAT20, U23 DISP0_DAT19, U24 DISP0_DAT17, U25 DISP0_DAT14, V24 DISP0_DAT22, V25 DISP0_DAT18, W24 DISP0_DAT23
part E pins: A4 GND_3, A5 FA_ANA, A8 GND_4, A13 GND_1, A25 GND_2, AA7 GND_10, AA10 GND_5, AA13 GND_6, AA16 GND_7, AA19 GND_8, AA22 GND_9, AB3 GND_12, AB24 GND_11, AD4 GND_18, AD7 GND_19, AD10 GND_13, AD13 GND_14, AD16 GND_15, AD19 GND_16, AD22 GND_17, AE1 GND_20, AE25 GND_21, B4 GND_22, B5 VDD_FA, C1 GND_23, C4 GND_25, C6 GND_26, C8 GPANAIO, C10 GND_24, D3 GND_27, D6 GND_28, D8 GND_29, E5 GND_30, E6 GND_31, E7 GND_32, E8 NVCC_PLL_OUT, F5 GND_33, F6 GND_34, F7 GND_35, F8 GND_36, G3 GND_39, G9 VDD_SNVS_CAP, G10 GND_37, G11 VDD_SNVS_IN, G14 NVCC_SD3, G15 NVCC_NANDF, G16 NVCC_SD1, G17 NVCC_SD2, G18 NVCC_RGMII, G19 GND_38, H8 GND_43, H9 VDDHIGH_IN_1, H10 VDDHIGH_CAP_1, H11 VDDARM23_CAP_1, H12 GND_40, H13 VDDARM_CAP_1, H14 VDDARM_IN_1, H15 GND_41, H16 VDDSOC_IN_1, H17 VDDPU_CAP_1, H18 GND_42, J2 GND_47, J7 NVCC_JTAG, J8 GND_48, J9 VDDHIGH_IN_2, J10 VDDHIGH_CAP_2, J11 VDDARM23_CAP_2, J12 GND_44, J13 VDDARM_CAP_2, J14 VDDARM_IN_2, J15 GND_45, J16 VDDSOC_IN_2, J17 VDDPU_CAP_2, J18 GND_46, K7 NVCC_MIPI, K8 GND_53, K9 VDDARM23_IN_1, K10 GND_49, K11 VDDARM23_CAP_3, K12 GND_50, K13 VDDARM_CAP_3, K14 VDDARM_IN_3, K15 GND_51, K16 VDDSOC_IN_3, K17 VDDPU_CAP_3, K18 GND_52, K19 NVCC_EIM0, L2 GND_58, L5 GND_59, L8 GND_60, L9 VDDARM23_IN_2, L10 GND_54, L11 VDDARM23_CAP_4, L12 GND_55, L13 VDDARM_CAP_4, L14 VDDARM_IN_4, L15 GND_56, L16 VDDSOC_IN_4, L17 VDDPU_CAP_4, L18 GND_57, L19 NVCC_EIM1, M8 GND_65, M9 VDDARM23_IN_3, M10 GND_61, M11 VDDARM23_CAP_5, M12 GND_62, M13 VDDARM_CAP_5, M14 VDDARM_IN_5, M15 GND_63, M16 VDDSOC_IN_5, M17 VDDPU_CAP_5, M18 GND_64, M19 NVCC_EIM2, N7 NVCC_CSI, N8 GND_69, N9 VDDARM23_IN_4, N10 GND_66, N11 VDDARM23_CAP_6, N12 VDD_CACHE_CAP, N13 VDDARM_CAP_6, N14 VDDARM_IN_6, N15 GND_67, N16 VDDSOC_IN_6, N17 VDDPU_CAP_6, N18 GND_68, P7 NVCC_GPIO, P8 GND_74, P9 VDDARM23_IN_5, P10 GND_70, P11 VDDARM23_CAP_7, P12 GND_71, P13 VDDARM_CAP_7, P14 VDDARM_IN_7, P15 GND_72, P16 VDDSOC_IN_7, P17 VDDPU_CAP_7, P18 GND_73, P19 NVCC_LCD, R8 GND_78, R9 VDDARM23_IN_6, R10 VDDSOC_CAP_1, R11 VDDARM23_CAP_8, R12 GND_75, R13 VDDARM_CAP_8, R14 VDDARM_IN_8, R15 GND_76, R16 VDDSOC_IN_8, R17 GND_77, R19 NVCC_ENET, T8 GND_84, T9 VDDARM23_IN_7, T10 VDDSOC_CAP_2, T11 GND_79, T12 GND_80, T13 VDDSOC_CAP_3, T14 VDDSOC_CAP_4, T15 GND_81, T16 VDDSOC_IN_9, T17 GND_82, T19 GND_83, U8 GND_89, U9 VDDARM23_IN_8, U10 VDDSOC_CAP_5, U11 GND_85, U12 GND_86, U13 VDDSOC_CAP_6, U14 VDDSOC_CAP_7, U15 GND_87, U16 VDDSOC_IN_10, U17 GND_88, U19 GND_90, V8 GND_91, V19 GND_92, W3 GND_93, W7 GND_94, W8 GND_95, W9 GND_96, W10 GND_97, W11 GND_98, W12 GND_99, W13 GND_100, W15 GND_101, W16 GND_102, W17 GND_103, W18 GND_104, W19 GND_105, Y5 GND_106, Y24 GND_107
part F pins: A12 SATA_TXP, A14 SATA_RXM, B12 SATA_TXM, B14 SATA_RXP, C14 SATA_REXT, G12 SATA_VPH, G13 SATA_VP
part G pins: A6 USB_OTG_DP, B6 USB_OTG_DN, B8 ~{USB_OTG_CHD}, D10 USB_H1_VBUS, E9 USB_OTG_VBUS, E10 USB_H1_DP, F9 VDDUSB_CAP, F10 USB_H1_DN
part H pins: AA1 LVDS1_TX1_P, AA2 LVDS1_TX1_N, AA3 LVDS1_TX3_N, AA4 LVDS1_TX3_P, AB1 LVDS1_TX2_N, AB2 LVDS1_TX2_P, U1 LVDS0_TX0_P, U2 LVDS0_TX0_N, U3 LVDS0_TX1_P, U4 LVDS0_TX1_N, V1 LVDS0_TX2_P, V2 LVDS0_TX2_N, V3 LVDS0_CLK_P, V4 LVDS0_CLK_N, V7 NVCC_LVDS2P5, W1 LVDS0_TX3_P, W2 LVDS0_TX3_N, Y1 LVDS1_TX0_N, Y2 LVDS1_TX0_P, Y3 LVDS1_CLK_N, Y4 LVDS1_CLK_P
part I pins: J1 HDMI_REF, J3 HDMI_D1M, J4 HDMI_D1P, J5 HDMI_CLKM, J6 HDMI_CLKP, K1 HDMI_HPD, K2 HDMI_DDCCEC, K3 HDMI_D2M, K4 HDMI_D2P, K5 HDMI_D0M, K6 HDMI_D0P, L7 HDMI_VP, M7 HDMI_VPH
part J pins: AA5 DRAM_D3, AA6 DRAM_D10, AA8 DRAM_D17, AA9 DRAM_D23, AA11 DRAM_SDCKE1, AA12 DRAM_A14, AA14 DRAM_A2, AA15 DRAM_A10, AA17 DRAM_D32, AA18 DRAM_D33, AA20 DRAM_D45, AA21 DRAM_D57, AA23 DRAM_D61, AA24 ~{DRAM_SDQS7}, AA25 DRAM_SDQS7, AB4 DRAM_D6, AB5 DRAM_D12, AB6 DRAM_D14, AB7 DRAM_D16, AB8 DRAM_DQM2, AB9 DRAM_D18, AB10 ~{DRAM_SDQS3}, AB11 DRAM_D27, AB12 DRAM_SDBA2, AB13 DRAM_A8, AB14 DRAM_A1, AB15 DRAM_RAS, AB16 DRAM_SDWE, AB17 DRAM_SDODT1, AB18 DRAM_DQM4, AB19 DRAM_D38, AB20 DRAM_D41, AB21 DRAM_D42, AB22 DRAM_D52, AB23 DRAM_D60, AB25 DRAM_D56, AC1 DRAM_D4, AC2 DRAM_VREF, AC3 DRAM_DQM0, AC4 DRAM_D2, AC5 DRAM_D13, AC6 DRAM_DQM1, AC7 DRAM_D15, AC8 DRAM_D22, AC9 DRAM_D28, AC10 DRAM_SDQS3, AC11 DRAM_D31, AC12 DRAM_A11, AC13 DRAM_A6, AC14 DRAM_A0, AC15 DRAM_SDBA0, AC16 DRAM_SDODT0, AC17 DRAM_A13, AC18 DRAM_D34, AC19 DRAM_D39, AC20 DRAM_DQM5, AC21 DRAM_D47, AC22 DRAM_D48, AC23 DRAM_D53, AC24 DRAM_D51, AC25 DRAM_D55, AD1 DRAM_D5, AD2 DRAM_D0, AD3 ~{DRAM_SDQS0}, AD5 DRAM_D8, AD6 DRAM_SDQS1, AD8 DRAM_SDQS2, AD9 DRAM_D29, AD11 DRAM_D30, AD12 DRAM_A12, AD14 DRAM_SDCLK_1, AD15 DRAM_SDCLK_0, AD17 DRAM_CS1, AD18 DRAM_SDQS4, AD20 DRAM_SDQS5, AD21 DRAM_D43, AD23 DRAM_SDQS6, AD24 DRAM_DQM6, AD25 DRAM_D54, AE2 DRAM_D1, AE3 DRAM_SDQS0, AE4 DRAM_D7, AE5 DRAM_D9, AE6 ~{DRAM_SDQS1}, AE7 DRAM_D11, AE8 ~{DRAM_SDQS2}, AE9 DRAM_D24, AE10 DRAM_DQM3, AE11 DRAM_D26, AE12 DRAM_A9, AE13 DRAM_A5, AE14 ~{DRAM_SDCLK_1}, AE15 ~{DRAM_SDCLK_0}, AE16 DRAM_CAS, AE17 ZQPAD, AE18 ~{DRAM_SDQS4}, AE19 DRAM_D35, AE20 ~{DRAM_SDQS5}, AE21 DRAM_D46, AE22 DRAM_D49, AE23 ~{DRAM_SDQS6}, AE24 DRAM_D50, R18 NVCC_DRAM_1, T18 NVCC_DRAM_2, U18 NVCC_DRAM_3, V9 NVCC_DRAM_13, V10 NVCC_DRAM_4, V11 NVCC_DRAM_5, V12 NVCC_DRAM_6, V13 NVCC_DRAM_7, V14 NVCC_DRAM_8, V15 NVCC_DRAM_9, V16 NVCC_DRAM_10, V17 NVCC_DRAM_11, V18 NVCC_DRAM_12, W14 DRAM_A4, W25 DRAM_D63, Y6 DRAM_RESET, Y7 DRAM_D20, Y8 DRAM_D21, Y9 DRAM_D19, Y10 DRAM_D25, Y11 DRAM_SDCKE0, Y12 DRAM_A15, Y13 DRAM_A7, Y14 DRAM_A3, Y15 DRAM_SDBA1, Y16 DRAM_CS0, Y17 DRAM_D36, Y18 DRAM_D37, Y19 DRAM_D40, Y20 DRAM_D44, Y21 DRAM_DQM7, Y22 DRAM_D59, Y23 DRAM_D62, Y25 DRAM_D58
part K pins: A24 RGMII_TD3, B23 RGMII_RD1, B24 RGMII_RD2, B25 RGMII_RXC, C22 RGMII_TD0, C23 RGMII_TX_CTL, C24 RGMII_RD0, D21 RGMII_TXC, D22 RGMII_RX_CTL, D23 RGMII_RD3, E21 RGMII_TD2, F20 RGMII_TD1
part L pins: A2 PCIE_REXT, A3 PCIE_TXM, B1 PCIE_RXM, B2 PCIE_RXP, B3 PCIE_TXP, G7 PCIE_VPH, G8 PCIE_VPTX, H7 PCIE_VP
part A text: i.MX6Q - EIM
part B text: i.MX6Q
part C text: i.MX6Q - CONTROL
part D text: i.MX6Q - DISP; CSI
part E text: i.MX6Q - POWER
part F text: i.MX6Q - SATA
part G text: i.MX6Q - USB
part H text: i.MX6Q - LVDS
part I text: i.MX6Q - HDMI
part J text: i.MX6Q - DDR
part K text: i.MX6Q - RGMII
part L text: i.MX6Q - PCIe

## MCP1702T
designator DA?, comment MCP1702T-2502E/CB
Low Quiescent Current LDO, 3-Pin; Value: MCP1702T-2502E/CB
pins: 1 GND (power), 2 VOUT (power), 3 VIN (power)

## MCP2515
designator DD?, comment MCP2515-I/SO
м/сх, CAN controller; Value: MCP2515-I/SO
pins: 1 TX, 2 RX, 3 CLK/SOF, 4 ~{TX0RTS}, 5 ~{TX1RTS}, 6 ~{TX2RTS}, 7 OSC2, 8 OSC1, 9 GND (power), 10 ~{RX1BF}, 11 ~{RX0BF}, 12 ~{INT}, 13 SCK, 14 SI, 15 SO, 16 ~{CS}, 17 ~{RESET}, 18 VCC (power)

## MCP2517FD
designator DD?, comment MCP2517FD-H/SL
м/сх, CAN controller; Value: MCP2517FD-H/SL
pins: 1 TXCAN, 2 RXCAN, 3 CLKO/SOF, 4 ~{INT}, 5 OSC2, 6 OSC1, 7 VSS (power), 8 ~{INT1}, 9 ~{INT0}, 10 SCK, 11 SDI, 12 SDO, 13 nCS, 14 VDD (power)

## MCP2551T-E/SN
designator DD?, comment PCA82C250T/N4
Микросхема; Value: PCA82C250T/N4
pins: 1 TXD (in) "Screw Terminal", 2 GND (power), 3 VDD (power) "Positive Supply 4.5V to 5.5V", 4 RXD (out) "Receive Data", 5 VREF (out) "Reference Voltage", 6 CANL (out) "CAN Bus Low Line", 7 CANH (out) "CAN Bus High Line", 8 RS "Mode/Slope Setting"

## MCP6001
designator DA?
м/сх
pins: 1 Vout (power), 2 -, 3 Vin+, 4 Vin-, 5 Vdd

## MCP6001R
designator DA?
м/сх
pins: 1 Vout (power), 2 Vdd, 3 Vin+, 4 Vin-, 5 -

## MCP73831
designator DA?
Miniature Single-Cell, Fully Integrated Li-Ion,  Li-Polymer Charge Management Controllers; Value: MCP73831
pins: 1 STAT, 2 VSS, 3 VBAT, 4 VDD, 5 PROG

## MF-02MA
designator XP?
Minifit 2x1 Вилка на плату, шаг 4.2мм; Value: MF-02MA
pins: 1, 2
text: Net; Pin

## MF-04MA
designator XP?
Minifit 2x1 Вилка на плату, шаг 4.2мм; Value: MF-04MA
pins: 1, 2, 3, 4
text: Net; Pin

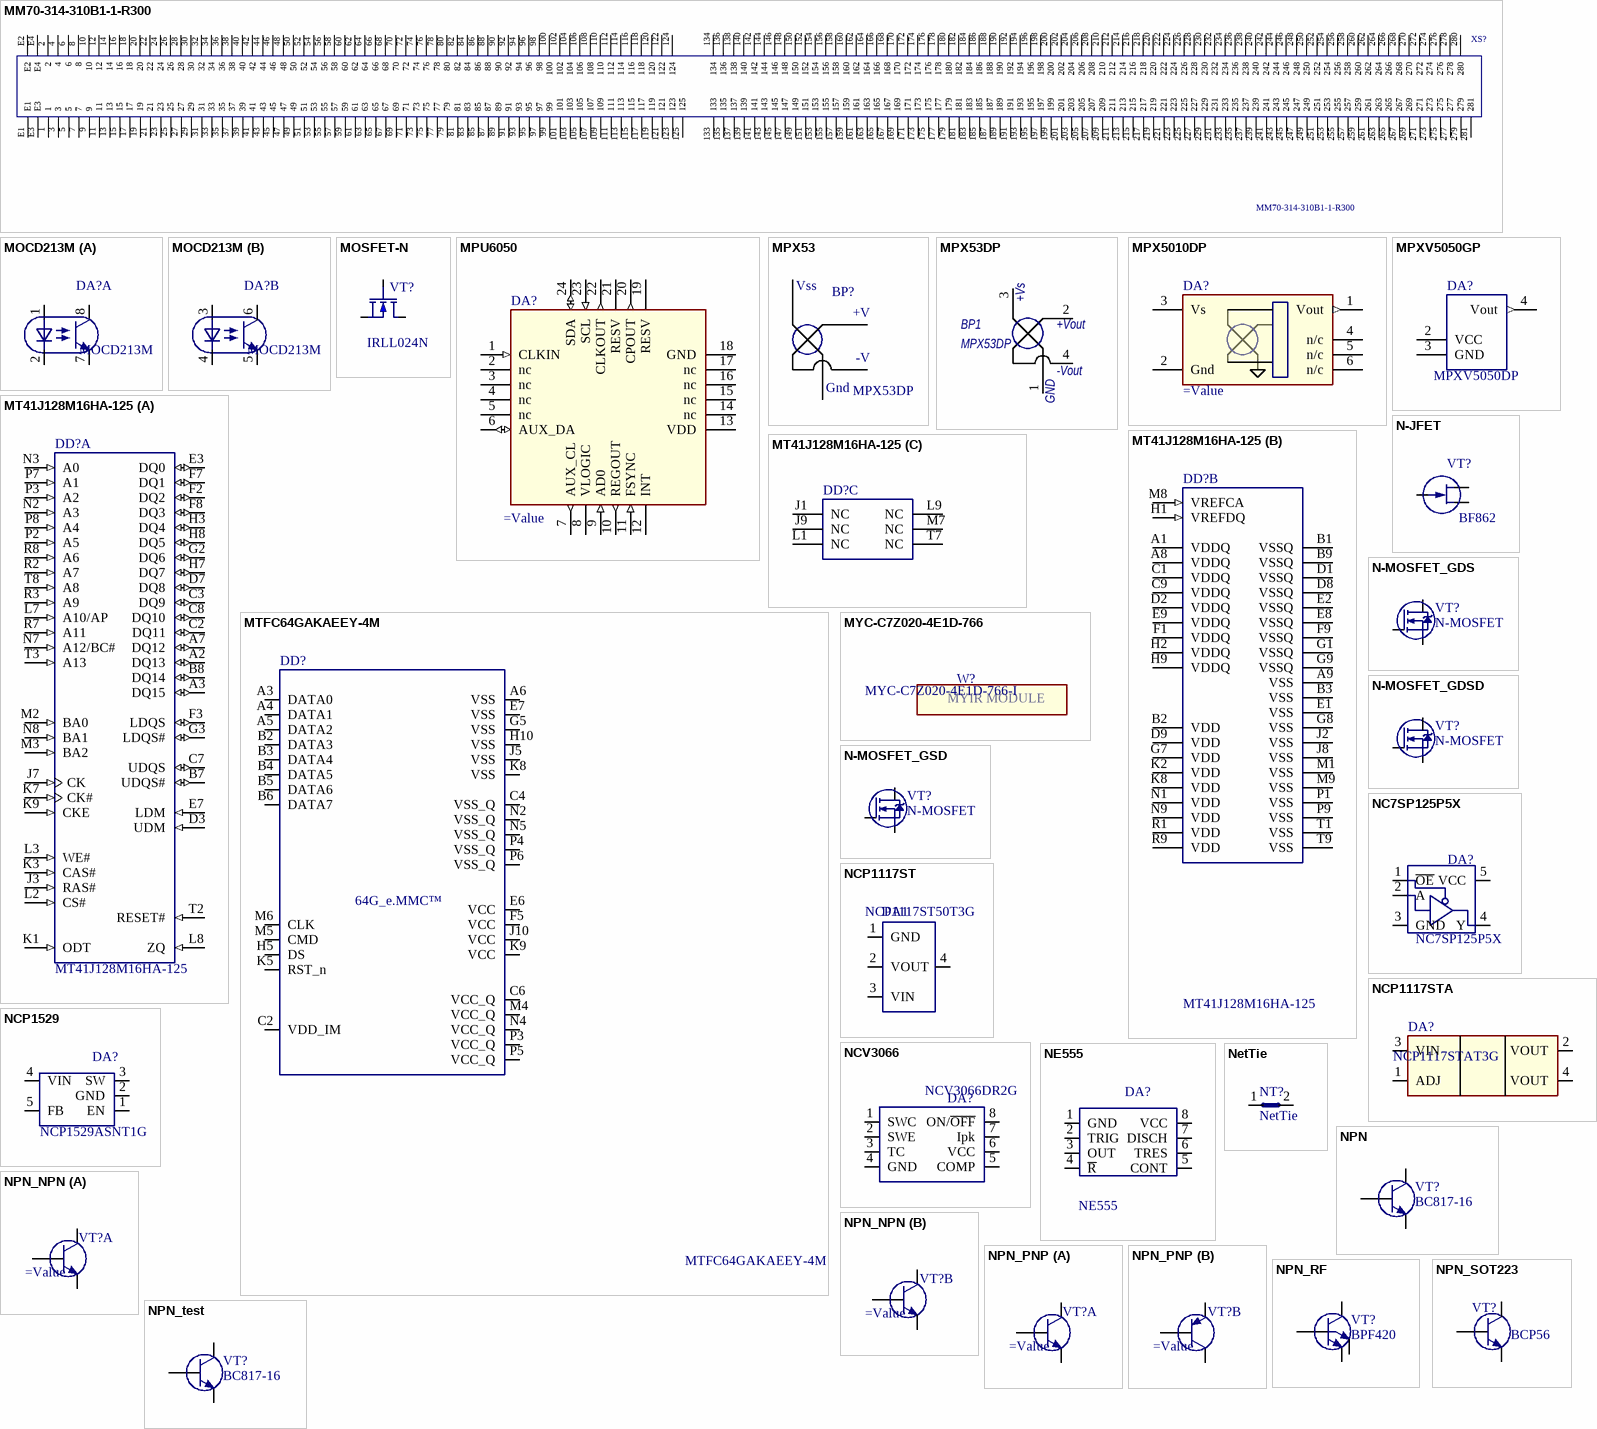
[diagram p34: symbols MM70-314-310B1-1-R300 to NPN_test]

## MM70-314-310B1-1-R300
designator XS?
footprint MM70-314-310B1-1-R300
pins: 1, 2, 3, 4, 5, 6, 7, 8, 9, 10, 11, 12, 13, 14, 15, 16, 17, 18, 19, 20, 21, 22, 23, 24, 25, 26, 27, 28, 29, 30, 31, 32, 33, 34, 35, 36, 37, 38, 39, 40, 41, 42, 43, 44, 45, 46, 47, 48, 49, 50, 51, 52, 53, 54, 55, 56, 57, 58, 59, 60, 61, 62, 63, 64, 65, 66, 67, 68, 69, 70, 71, 72, 73, 74, 75, 76, 77, 78, 79, 80, 81, 82, 83, 84, 85, 86, 87, 88, 89, 90, 91, 92, 93, 94, 95, 96, 97, 98, 99, 100, 101, 102, 103, 104, 105, 106, 107, 108, 109, 110, 111, 112, 113, 114, 115, 116, 117, 118, 119, 120, 121, 122, 123, 124, 125, 133, 134, 135, 136, 137, 138, 139, 140, 141, 142, 143, 144, 145, 146, 147, 148, 149, 150, 151, 152, 153, 154, 155, 156, 157, 158, 159, 160, 161, 162, 163, 164, 165, 166, 167, 168, 169, 170, 171, 172, 173, 174, 175, 176, 177, 178, 179, 180, 181, 182, 183, 184, 185, 186, 187, 188, 189, 190, 191, 192, 193, 194, 195, 196, 197, 198, 199, 200, 201, 202, 203, 204, 205, 206, 207, 208, 209, 210, 211, 212, 213, 214, 215, 216, 217, 218, 219, 220, 221, 222, 223, 224, 225, 226, 227, 228, 229, 230, 231, 232, 233, 234, 235, 236, 237, 238, 239, 240, 241, 242, 243, 244, 245, 246, 247, 248, 249, 250, 251, 252, 253, 254, 255, 256, 257, 258, 259, 260, 261, 262, 263, 264, 265, 266, 267, 268, 269, 270, 271, 272, 273, 274, 275, 276, 277, 278, 279, 280, 281, E1, E2, E3, E4

## MOCD213M
designator DA?
Оптрон MOCD213M; Value: MOCD213M
part A pins: 1 A1, 2 C1, 7 E1, 8 VC1
part B pins: 3 A2, 4 C2, 5 E2, 6 VC2

## MOSFET-N
designator VT?, comment IRLL024N
N-Channel MOSFET; Value: IRLL024N
pins: 1 G, 2 D, 3 S

## MPU6050
designator DA?
3-axis MEMS gyroscope, a 3-axis MEMS accelerometer
pins: 1 CLKIN (in), 2 nc, 3 nc, 4 nc, 5 nc, 6 AUX_DA (io), 7 AUX_CL (out), 8 VLOGIC (power), 9 AD0 (in), 10 REGOUT (out), 11 FSYNC (in), 12 INT (oc), 13 VDD (power), 14 nc, 15 nc, 16 nc, 17 nc, 18 GND (power), 19 RESV, 20 CPOUT (out), 21 RESV, 22 CLKOUT (out), 23 SCL (in), 24 SDA (io)

## MPX53
designator BP?, comment MPX53DP
Датчик давления некомпенсированный; Value: MPX53DP
pins: 1 Gnd (power), 2 +V, 3 Vss (power), 4 -V

## MPX53DP
designator BP1
Дифференциальный датчик давления 0 кПа - 50 кПа; Manufacturer: NXP; Identifier: MPX53DP Pressure Sensor NXP; Case: 98ASB14912C; Part Number: MPX53DP; Operating Temperature: -40°C to 125°C; Value: MPX53DP
footprint MPX53DP
pins: 1 GND, 2 +Vout (power), 3 +Vs, 4 -Vout

## MPX5010DP
designator DA?
Микросхема
pins: 1 hidden, 1 Vout (out), 2 Gnd (power), 3 Vs (power), 4 n/c, 5 hidden, 5 n/c, 6 hidden, 6 n/c, 7 hidden, 8 hidden

## MPXV5050GP
designator DA?, comment MPXV5050DP
Микросхема; Value: MPXV5050DP
pins: 1 hidden, 2 VCC (power), 3 GND (power), 4 Vout (out), 5 hidden, 6 hidden, 7 hidden, 8 hidden

## MT41J128M16HA-125
designator DD?
2Gb DDR3-1600 SDRAM, 128Mb x 16, 1.25ns, 1.5V, 0 to 95 degC, 96-Ball FBGA, Pb-Free; MPN: MT41J128M16JT-125:K; CL: CL = 11; Clock Rate: 800 MHz; Op. Temp.: 0C to +95C; VENDOR: Micron; MYPN: UDDR3-128M16-125-96BGA; DatasheetVersion: Rev. P; PackageVersion: Rev.E; PackageReference: MICT-HA-96; PackageDescription: 96-Ball Fine-Pitch Ball Grid Array, 14 x 9 mm, Pitch 0.8 mm; Cycle Time: 1.25ns; Data Rate: DDR3-1600; Density: 2Gb; Depth: 128Mb; Package: FBGA; Pin Count: 96-ball; RoHS: Yes; Voltage: 1.5V; Width: x16; Mounting Technology: Surface Mount; ComponentLink1Description: Manufacturer URL; ComponentLink1URL: http://www.micron.com/; ComponentLink2Description: Datasheet; ComponentLink2URL: http://www.micron.com/~/media/Documents/Products/Data%20Sheet/DRAM/2Gb_DDR3_SDRAM.pdf; ComponentLink3Description: Package Specification; ComponentLink3URL: http://www.micron.com/~/media/Documents/Products/Data%20Sheet/DRAM/4Gb_1_35V_DDR3L.pdf
footprint MICT-HA-96 (BGA, 96-Balls, Body 14x9mm, Pitch 0.8mm)
part A pins: A2 DQ13 (io) "Data input/output: Upper byte of bidirectional data bus for the x16 configuration.DQ[15:8] are referenced to VREFDQ.", A3 DQ15 (io) "Data input/output: Upper byte of bidirectional data bus for the x16 configuration.DQ[15:8] are referenced to VREFDQ.", A7 DQ12 (io) "Data input/output: Upper byte of bidirectional data bus for the x16 configuration.DQ[15:8] are referenced to VREFDQ.", B7 UDQS# (io) "Upper byte data strobe: Output with read data. Edge-aligned with read data. Input with write data. DQS is center-aligned to write data.", B8 DQ14 (io) "Data input/output: Upper byte of bidirectional data bus for the x16 configuration.DQ[15:8] are referenced to VREFDQ.", C2 DQ11 (io) "Data input/output: Upper byte of bidirectional data bus for the x16 configuration.DQ[15:8] are referenced to VREFDQ.", C3 DQ9 (io) "Data input/output: Upper byte of bidirectional data bus for the x16 configuration.DQ[15:8] are referenced to VREFDQ.", C7 UDQS (io) "Upper byte data strobe: Output with read data. Edge-aligned with read data. Input with write data. DQS is center-aligned to write data.", C8 DQ10 (io) "Data input/output: Upper byte of bidirectional data bus for the x16 configuration.DQ[15:8] are referenced to VREFDQ.", D3 UDM (in) "Input data mask: UDM is an upper-byte, input mask signal for write data. Upper-byte input data is masked when UDM is sampled HIGH along with that input data during a WRITE access. Although the UDM ball is input-only, the UDM (See Datasheet)", D7 DQ8 (io) "Data input/output: Upper byte of bidirectional data bus for the x16 configuration.DQ[15:8] are referenced to VREFDQ.", E3 DQ0 (io) "Data input/output: Lower byte of bidirectional data bus for the x16 configuration.DQ[7:0] are referenced to VREFDQ.", E7 LDM (in) "Input data mask: LDM is a lower-byte, input mask signal for write data. Lower-byte input data is masked when LDM is sampled HIGH along with the input data during a write access. Although the LDM ball is input-only, the LDM (See Datasheet)", F2 DQ2 (io) "Data input/output: Lower byte of bidirectional data bus for the x16 configuration.DQ[7:0] are referenced to VREFDQ.", F3 LDQS (io) "Lower byte data strobe: Output with read data. Edge-aligned with read data. Input with write data. Center-aligned to write data.", F7 DQ1 (io) "Data input/output: Lower byte of bidirectional data bus for the x16 configuration.DQ[7:0] are referenced to VREFDQ.", F8 DQ3 (io) "Data input/output: Lower byte of bidirectional data bus for the x16 configuration.DQ[7:0] are referenced to VREFDQ.", G2 DQ6 (io) "Data input/output: Lower byte of bidirectional data bus for the x16 configuration.DQ[7:0] are referenced to VREFDQ.", G3 LDQS# (io) "Lower byte data strobe: Output with read data. Edge-aligned with read data. Input with write data. Center-aligned to write data.", H3 DQ4 (io) "Data input/output: Lower byte of bidirectional data bus for the x16 configuration.DQ[7:0] are referenced to VREFDQ.", H7 DQ7 (io) "Data input/output: Lower byte of bidirectional data bus for the x16 configuration.DQ[7:0] are referenced to VREFDQ.", H8 DQ5 (io) "Data input/output: Lower byte of bidirectional data bus for the x16 configuration.DQ[7:0] are referenced to VREFDQ.", J3 RAS# (in) "Command inputs: RAS#, CAS#, and WE# (along with CS#) define the command being entered and are referenced to VREFCA.", J7 CK (in) "Clock: CK and CK# are differential clock inputs. All control and address input signals are sampled on the crossing of the positive edge of CK and the negative edge of CK#. Output data strobe (DQS, DQS#) is referenced to the (See Datasheet)", K1 ODT (in) "On-die termination: ODT enables (registered HIGH) and disables (registered LOW) termination resistance internal to the DDR3 SDRAM. When enabled in normal operation, ODT is only applied to each of the following balls: (See Datasheet)", K3 CAS# (in) "Command inputs: RAS#, CAS#, and WE# (along with CS#) define the command being entered and are referenced to VREFCA.", K7 CK# (in) "Clock: CK and CK# are differential clock inputs. All control and address input signals are sampled on the crossing of the positive edge of CK and the negative edge of CK#. Output data strobe (DQS, DQS#) is referenced to the (See Datasheet)", K9 CKE (in) "Clock enable: CKE enables (registered HIGH) and disables (registered LOW) internal circuitry and clocks on the DRAM. The specific circuitry that is enabled/disabled is dependent upon the DDR3 SDRAM configuration and (See Datasheet)", L2 CS# (in) "Chip select: CS# enables (registered LOW) and disables (registered HIGH) the command decoder. All commands are masked when CS# is registered HIGH. CS# provides for external rank selection on systems with multiple ranks. CS# (See Datasheet)", L3 WE# (in) "Command inputs: RAS#, CAS#, and WE# (along with CS#) define the command being entered and are referenced to VREFCA.", L7 A10/AP (in) "Address inputs: Provide the row address for ACTIVATE commands, and the column address and auto precharge bit (A10) for READ/WRITE commands, to select one location out of the memory array in the respective bank. A10 sampled (See Datasheet)", L8 ZQ (in) "External reference ball for output drive calibration: This ball is tied to external 240ohm resistor RZQ, which is tied to VSSQ.", M2 BA0 (in) "Bank address inputs: BA[2:0] define the bank to which an ACTIVATE, READ, WRITE, or PRECHARGE command is being applied. BA[2:0] define which mode register (MR0, MR1, MR2, or MR3) is loaded during the LOAD MODE command. (See Datasheet)", M3 BA2 (in) "Bank address inputs: BA[2:0] define the bank to which an ACTIVATE, READ, WRITE, or PRECHARGE command is being applied. BA[2:0] define which mode register (MR0, MR1, MR2, or MR3) is loaded during the LOAD MODE command. (See Datasheet)", N2 A3 (in) "Address inputs: Provide the row address for ACTIVATE commands, and the column address and auto precharge bit (A10) for READ/WRITE commands, to select one location out of the memory array in the respective bank. A10 sampled (See Datasheet)", N3 A0 (in) "Address inputs: Provide the row address for ACTIVATE commands, and the column address and auto precharge bit (A10) for READ/WRITE commands, to select one location out of the memory array in the respective bank. A10 sampled (See Datasheet)", N7 A12/BC# (in) "Address inputs: Provide the row address for ACTIVATE commands, and the column address and auto precharge bit (A10) for READ/WRITE commands, to select one location out of the memory array in the respective bank. A10 sampled (See Datasheet)", N8 BA1 (in) "Bank address inputs: BA[2:0] define the bank to which an ACTIVATE, READ, WRITE, or PRECHARGE command is being applied. BA[2:0] define which mode register (MR0, MR1, MR2, or MR3) is loaded during the LOAD MODE command. (See Datasheet)", P2 A5 (in) "Address inputs: Provide the row address for ACTIVATE commands, and the column address and auto precharge bit (A10) for READ/WRITE commands, to select one location out of the memory array in the respective bank. A10 sampled (See Datasheet)", P3 A2 (in) "Address inputs: Provide the row address for ACTIVATE commands, and the column address and auto precharge bit (A10) for READ/WRITE commands, to select one location out of the memory array in the respective bank. A10 sampled (See Datasheet)", P7 A1 (in) "Address inputs: Provide the row address for ACTIVATE commands, and the column address and auto precharge bit (A10) for READ/WRITE commands, to select one location out of the memory array in the respective bank. A10 sampled (See Datasheet)", P8 A4 (in) "Address inputs: Provide the row address for ACTIVATE commands, and the column address and auto precharge bit (A10) for READ/WRITE commands, to select one location out of the memory array in the respective bank. A10 sampled (See Datasheet)", R2 A7 (in) "Address inputs: Provide the row address for ACTIVATE commands, and the column address and auto precharge bit (A10) for READ/WRITE commands, to select one location out of the memory array in the respective bank. A10 sampled (See Datasheet)", R3 A9 (in) "Address inputs: Provide the row address for ACTIVATE commands, and the column address and auto precharge bit (A10) for READ/WRITE commands, to select one location out of the memory array in the respective bank. A10 sampled (See Datasheet)", R7 A11 (in) "Address inputs: Provide the row address for ACTIVATE commands, and the column address and auto precharge bit (A10) for READ/WRITE commands, to select one location out of the memory array in the respective bank. A10 sampled (See Datasheet)", R8 A6 (in) "Address inputs: Provide the row address for ACTIVATE commands, and the column address and auto precharge bit (A10) for READ/WRITE commands, to select one location out of the memory array in the respective bank. A10 sampled (See Datasheet)", T2 RESET# (in) "Reset: RESET# is an active LOW CMOS input referenced to VSS. The RESET# input receiver is a CMOS input defined as a rail-to-rail signal with DC HIGH", T3 A13 (in) "Address inputs: Provide the row address for ACTIVATE commands, and the column address and auto precharge bit (A10) for READ/WRITE commands, to select one location out of the memory array in the respective bank. A10 sampled (See Datasheet)", T8 A8 (in) "Address inputs: Provide the row address for ACTIVATE commands, and the column address and auto precharge bit (A10) for READ/WRITE commands, to select one location out of the memory array in the respective bank. A10 sampled (See Datasheet)"
part B pins: A1 VDDQ (power) "DQ power supply: 1.5V +/-0.075V. Isolated on the device for improved noise immunity.", A8 VDDQ (power) "DQ power supply: 1.5V +/-0.075V. Isolated on the device for improved noise immunity.", A9 VSS (power) "Ground.", B1 VSSQ (power) "DQ ground: Isolated on the device for improved noise immunity.", B2 VDD (power) "Power supply: 1.5V +/-0.075V.", B3 VSS (power) "Ground.", B9 VSSQ (power) "DQ ground: Isolated on the device for improved noise immunity.", C1 VDDQ (power) "DQ power supply: 1.5V +/-0.075V. Isolated on the device for improved noise immunity.", C9 VDDQ (power) "DQ power supply: 1.5V +/-0.075V. Isolated on the device for improved noise immunity.", D1 VSSQ (power) "DQ ground: Isolated on the device for improved noise immunity.", D2 VDDQ (power) "DQ power supply: 1.5V +/-0.075V. Isolated on the device for improved noise immunity.", D8 VSSQ (power) "DQ ground: Isolated on the device for improved noise immunity.", D9 VDD (power) "Power supply: 1.5V +/-0.075V.", E1 VSS (power) "Ground.", E2 VSSQ (power) "DQ ground: Isolated on the device for improved noise immunity.", E8 VSSQ (power) "DQ ground: Isolated on the device for improved noise immunity.", E9 VDDQ (power) "DQ power supply: 1.5V +/-0.075V. Isolated on the device for improved noise immunity.", F1 VDDQ (power) "DQ power supply: 1.5V +/-0.075V. Isolated on the device for improved noise immunity.", F9 VSSQ (power) "DQ ground: Isolated on the device for improved noise immunity.", G1 VSSQ (power) "DQ ground: Isolated on the device for improved noise immunity.", G7 VDD (power) "Power supply: 1.5V +/-0.075V.", G8 VSS (power) "Ground.", G9 VSSQ (power) "DQ ground: Isolated on the device for improved noise immunity.", H1 VREFDQ (in) "Reference voltage for data: VREFDQ must be maintained at all times (excluding self refresh) for proper device operation.", H2 VDDQ (power) "DQ power supply: 1.5V +/-0.075V. Isolated on the device for improved noise immunity.", H9 VDDQ (power) "DQ power supply: 1.5V +/-0.075V. Isolated on the device for improved noise immunity.", J2 VSS (power) "Ground.", J8 VSS (power) "Ground.", K2 VDD (power) "Power supply: 1.5V +/-0.075V.", K8 VDD (power) "Power supply: 1.5V +/-0.075V.", M1 VSS (power) "Ground.", M8 VREFCA (in) "Reference voltage for control, command, and address: VREFCA must be maintained at all times (including self refresh) for proper device operation.", M9 VSS (power) "Ground.", N1 VDD (power) "Power supply: 1.5V +/-0.075V.", N9 VDD (power) "Power supply: 1.5V +/-0.075V.", P1 VSS (power) "Ground.", P9 VSS (power) "Ground.", R1 VDD (power) "Power supply: 1.5V +/-0.075V.", R9 VDD (power) "Power supply: 1.5V +/-0.075V.", T1 VSS (power) "Ground.", T9 VSS (power) "Ground."
part C pins: J1 NC "No connect: These balls should be left unconnected (the ball has no connection to the DRAM or to other balls).", J9 NC "No connect: These balls should be left unconnected (the ball has no connection to the DRAM or to other balls).", L1 NC "No connect: These balls should be left unconnected (the ball has no connection to the DRAM or to other balls).", L9 NC "No connect: These balls should be left unconnected (the ball has no connection to the DRAM or to other balls).", M7 NC "No connect: These balls should be left unconnected (the ball has no connection to the DRAM or to other balls).", T7 NC "No connect: These balls should be left unconnected (the ball has no connection to the DRAM or to other balls)."

## MTFC64GAKAEEY-4M
designator DD?
e.MMC™ Memory WFBGA153; Value: MTFC64GAKAEEY-4M
pins: A3 DATA0, A4 DATA1, A5 DATA2, A6 VSS, B2 DATA3, B3 DATA4, B4 DATA5, B5 DATA6, B6 DATA7, C2 VDD_IM, C4 VSS_Q, C6 VCC_Q, E6 VCC, E7 VSS, F5 VCC, G5 VSS, H5 DS, H10 VSS, J5 VSS, J10 VCC, K5 RST_n, K8 VSS, K9 VCC, M4 VCC_Q, M5 CMD, M6 CLK, N2 VSS_Q, N4 VCC_Q, N5 VSS_Q, P3 VCC_Q, P4 VSS_Q, P5 VCC_Q, P6 VSS_Q
text: 64G_e.MMC™

## MYC-C7Z020-4E1D-766
designator W?, comment MYC-C7Z020-4E1D-766-I
MYIR MODULE MYC-C7Z020-4E1D-766-I; Value: MYC-C7Z020-4E1D-766-I
pins: 3 NC (power) hidden, 6 B hidden
text: MYIR MODULE